# Altium schematic symbol library AltiumDesignerLibraries.SCHLIB: 396 symbols (part 2 of 3)
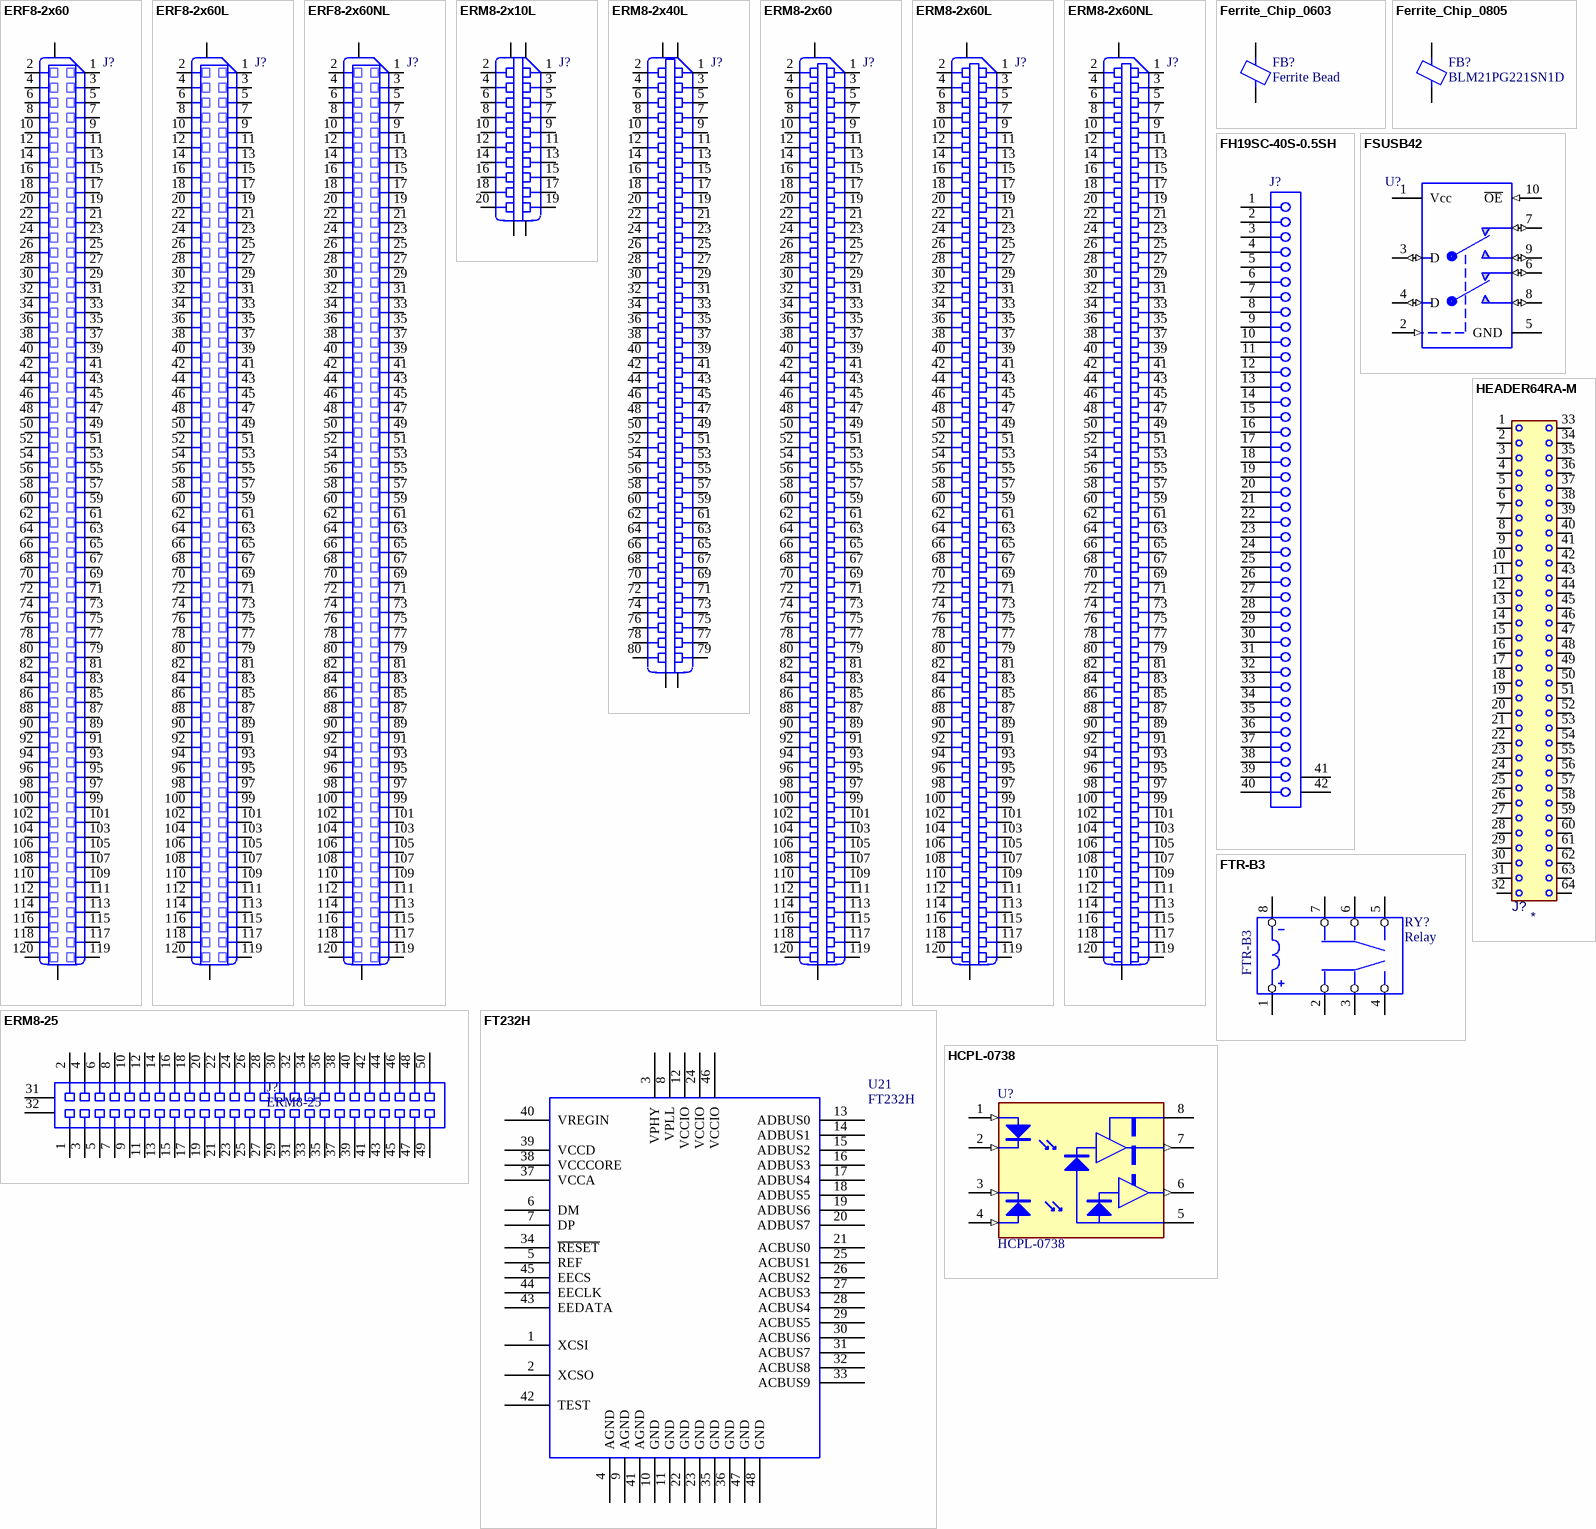
[diagram p18: symbols ERF8-2x60 to HEADER64RA-M]

## ERM8-2x40L
designator J?, comment 2x40 header  (value not drawn)
MicroBackplane high density male header (Latching); Manufacturer: Samtec; Manufacturer#: ERM8-2x40L
footprint ERM8-EM 2x40 (Edge Mount Male high density backplane connector)
pins: 1, 2, 3, 4, 5, 6, 7, 8, 9, 10, 11, 12, 13, 14, 15, 16, 17, 18, 19, 20, 21, 22, 23, 24, 25, 26, 27, 28, 29, 30, 31, 32, 33, 34, 35, 36, 37, 38, 39, 40, 41, 42, 43, 44, 45, 46, 47, 48, 49, 50, 51, 52, 53, 54, 55, 56, 57, 58, 59, 60, 61, 62, 63, 64, 65, 66, 67, 68, 69, 70, 71, 72, 73, 74, 75, 76, 77, 78, 79, 80, 81, 82, 83, 84

## ERM8-2x60
designator J?, comment Vertical 2x60 header  (value not drawn)
MicroBackplane high density male header; Manufacturer: Samtec; Manufacturer#: ERM8-2x60
footprint ERM8-2x60 (Mirco Backplane header)
pins: 1, 2, 3, 4, 5, 6, 7, 8, 9, 10, 11, 12, 13, 14, 15, 16, 17, 18, 19, 20, 21, 22, 23, 24, 25, 26, 27, 28, 29, 30, 31, 32, 33, 34, 35, 36, 37, 38, 39, 40, 41, 42, 43, 44, 45, 46, 47, 48, 49, 50, 51, 52, 53, 54, 55, 56, 57, 58, 59, 60, 61, 62, 63, 64, 65, 66, 67, 68, 69, 70, 71, 72, 73, 74, 75, 76, 77, 78, 79, 80, 81, 82, 83, 84, 85, 86, 87, 88, 89, 90, 91, 92, 93, 94, 95, 96, 97, 98, 99, 100, 101, 102, 103, 104, 105, 106, 107, 108, 109, 110, 111, 112, 113, 114, 115, 116, 117, 118, 119, 120, 120 121, 121

## ERM8-2x60L
designator J?, comment Vertical 2x60 header  (value not drawn)
MicroBackplane high density male header (Latching); Manufacturer: Samtec; Manufacturer#: ERM8-2x60L
footprint ERM8-EM 2x60 (Edge Mount Male high density backplane connector)
pins: 1, 2, 3, 4, 5, 6, 7, 8, 9, 10, 11, 12, 13, 14, 15, 16, 17, 18, 19, 20, 21, 22, 23, 24, 25, 26, 27, 28, 29, 30, 31, 32, 33, 34, 35, 36, 37, 38, 39, 40, 41, 42, 43, 44, 45, 46, 47, 48, 49, 50, 51, 52, 53, 54, 55, 56, 57, 58, 59, 60, 61, 62, 63, 64, 65, 66, 67, 68, 69, 70, 71, 72, 73, 74, 75, 76, 77, 78, 79, 80, 81, 82, 83, 84, 85, 86, 87, 88, 89, 90, 91, 92, 93, 94, 95, 96, 97, 98, 99, 100, 101, 102, 103, 104, 105, 106, 107, 108, 109, 110, 111, 112, 113, 114, 115, 116, 117, 118, 119, 120, 120 121, 121

## ERM8-2x60NL
designator J?, comment Vertical 2x60 header  (value not drawn)
MicroBackplane high density male header (Non-Latching); Manufacturer: Samtec; Manufacturer#: ERM8-2x60NL
footprint ERM8-2x60 (Mirco Backplane header)
pins: 1, 2, 3, 4, 5, 6, 7, 8, 9, 10, 11, 12, 13, 14, 15, 16, 17, 18, 19, 20, 21, 22, 23, 24, 25, 26, 27, 28, 29, 30, 31, 32, 33, 34, 35, 36, 37, 38, 39, 40, 41, 42, 43, 44, 45, 46, 47, 48, 49, 50, 51, 52, 53, 54, 55, 56, 57, 58, 59, 60, 61, 62, 63, 64, 65, 66, 67, 68, 69, 70, 71, 72, 73, 74, 75, 76, 77, 78, 79, 80, 81, 82, 83, 84, 85, 86, 87, 88, 89, 90, 91, 92, 93, 94, 95, 96, 97, 98, 99, 100, 101, 102, 103, 104, 105, 106, 107, 108, 109, 110, 111, 112, 113, 114, 115, 116, 117, 118, 119, 120, 120 121, 121

## ERM8-25
designator J?
ERM8-25x2 Right angle connector; Manufacturer: Samtec; Manufacturer#: ERM8-25
footprint 10226-55H3PC (MDR 26pos Rt Angle)
signal-integrity model D Subminiature
pins: 1, 2, 3, 4, 5, 6, 7, 8, 9, 10, 11, 12, 13, 14, 15, 16, 17, 18, 19, 20, 21, 22, 23, 24, 25, 26, 27, 28, 29, 30, 31 MH1, 31, 32 MH2, 32, 33, 34, 35, 36, 37, 38, 39, 40, 41, 42, 43, 44, 45, 46, 47, 48, 49, 50

## Ferrite_Chip_0603
designator FB?, comment Ferrite Bead
Ferrite Chip 150ohm @ 100MHz impedance 50mOhm DC
footprint CC0603
pins: 1, 2

## Ferrite_Chip_0805
designator FB?, comment BLM21PG221SN1D
Ferrite Chip 220ohm @ 100MHz impedance 50mOhm DC
footprint CC0805
pins: 1, 2

## FH19SC-40S-0.5SH
designator J?
FH19 Series, "Flip-Lock" SMT/ZIF Connector - 0.5mm Spaced Bottom  Contact
footprint FH19SC-40S-0.5SH(05) (Hirose 0.5mm FFC ZIF connectors Rt. angle surface mount)
pins: 1, 2, 3, 4, 5, 6, 7, 8, 9, 10, 11, 12, 13, 14, 15, 16, 17, 18, 19, 20, 21, 22, 23, 24, 25, 26, 27, 28, 29, 30, 31, 32, 33, 34, 35, 36, 37, 38, 39, 40, 41 MH1, 42 MH2

## FSUSB42
designator U?, comment USB Swicth  (value not drawn)
FSUSB42 Two port low power USB2.0 Switch
footprint TSSO3x5-G10
pins: 1 Vcc (power) "GND", 2 SEL (in), 3 D (io), 4 D (io), 5 GND (power), 6 HSD1- (io), 7 HSD1+ (io), 8 HSD2- (io), 9 HSD2+ (io), 10 ~{OE} (in)

## FT232H
designator U21
FT232H Single Channel Hi-Speed USB to Multipurpose UART/FIFO IC
footprint SQFP50P900X900-48M (Shrink QFP, 48-Leads, Body 7x7mm, Pitch 0.5mm, IPC Low Density)
pins: 1 XCSI, 2 XCSO, 3 VPHY, 4 AGND (power), 5 REF, 6 DM, 7 DP, 8 VPLL, 9 AGND (power), 10 GND (power), 11 GND (power), 12 VCCIO, 13 ADBUS0, 14 ADBUS1, 15 ADBUS2, 16 ADBUS3, 17 ADBUS4, 18 ADBUS5, 19 ADBUS6, 20 ADBUS7, 21 ACBUS0, 22 GND (power), 23 GND (power), 24 VCCIO, 25 ACBUS1, 26 ACBUS2, 27 ACBUS3, 28 ACBUS4, 29 ACBUS5, 30 ACBUS6, 31 ACBUS7, 32 ACBUS8, 33 ACBUS9, 34 ~{RESET}, 35 GND (power), 36 GND (power), 37 VCCA, 38 VCCCORE, 39 VCCD, 40 VREGIN, 41 AGND (power), 42 TEST, 43 EEDATA, 44 EECLK, 45 EECS, 46 VCCIO, 47 GND (power), 48 GND (power)

## FTR-B3
designator RY?, comment Relay
2342-05-000 COTO Reed Relay DTDT (2C) 5V Thru Hole
footprint FTR-B3G (DPDT Reed Relay)
footprint FTR-B3S (DPDT Reed Relay)
pins: 1 +, 2 NC1, 3 C1, 4 NO1, 5 NC2, 6 C2, 7 NC2, 8 -
1 alternate drawing of the same symbol

## HCPL-0738
designator U?
High Speed CMOS Optocoupler; Revision: 10/2/2004
footprint SO-G8/E3.9 (Small Outline; 8 Leads; Body Width 3.9 mm; Pitch 1.27 mm; PCB Creepage 4.4 mm)
pins: 1 ANODE 1 (in), 2 CATHODE 1 (in), 3 CATHODE 2 (in), 4 ANODE 2 (in), 5 GND (power), 6 Vo 1 (out), 7 Vo 2 (out), 8 VDD (power)

## HEADER64RA-M
designator J?  (value not drawn)
DIN Header, 64 Contacts, Dual Row, Right Angle, 3M 41612 Series 7064; Manufacturer: 3M; Value: *
footprint HEADER64RA
pins: 1, 2, 3, 4, 5, 6, 7, 8, 9, 10, 11, 12, 13, 14, 15, 16, 17, 18, 19, 20, 21, 22, 23, 24, 25, 26, 27, 28, 29, 30, 31, 32, 33, 34, 35, 36, 37, 38, 39, 40, 41, 42, 43, 44, 45, 46, 47, 48, 49, 50, 51, 52, 53, 54, 55, 56, 57, 58, 59, 60, 61, 62, 63, 64

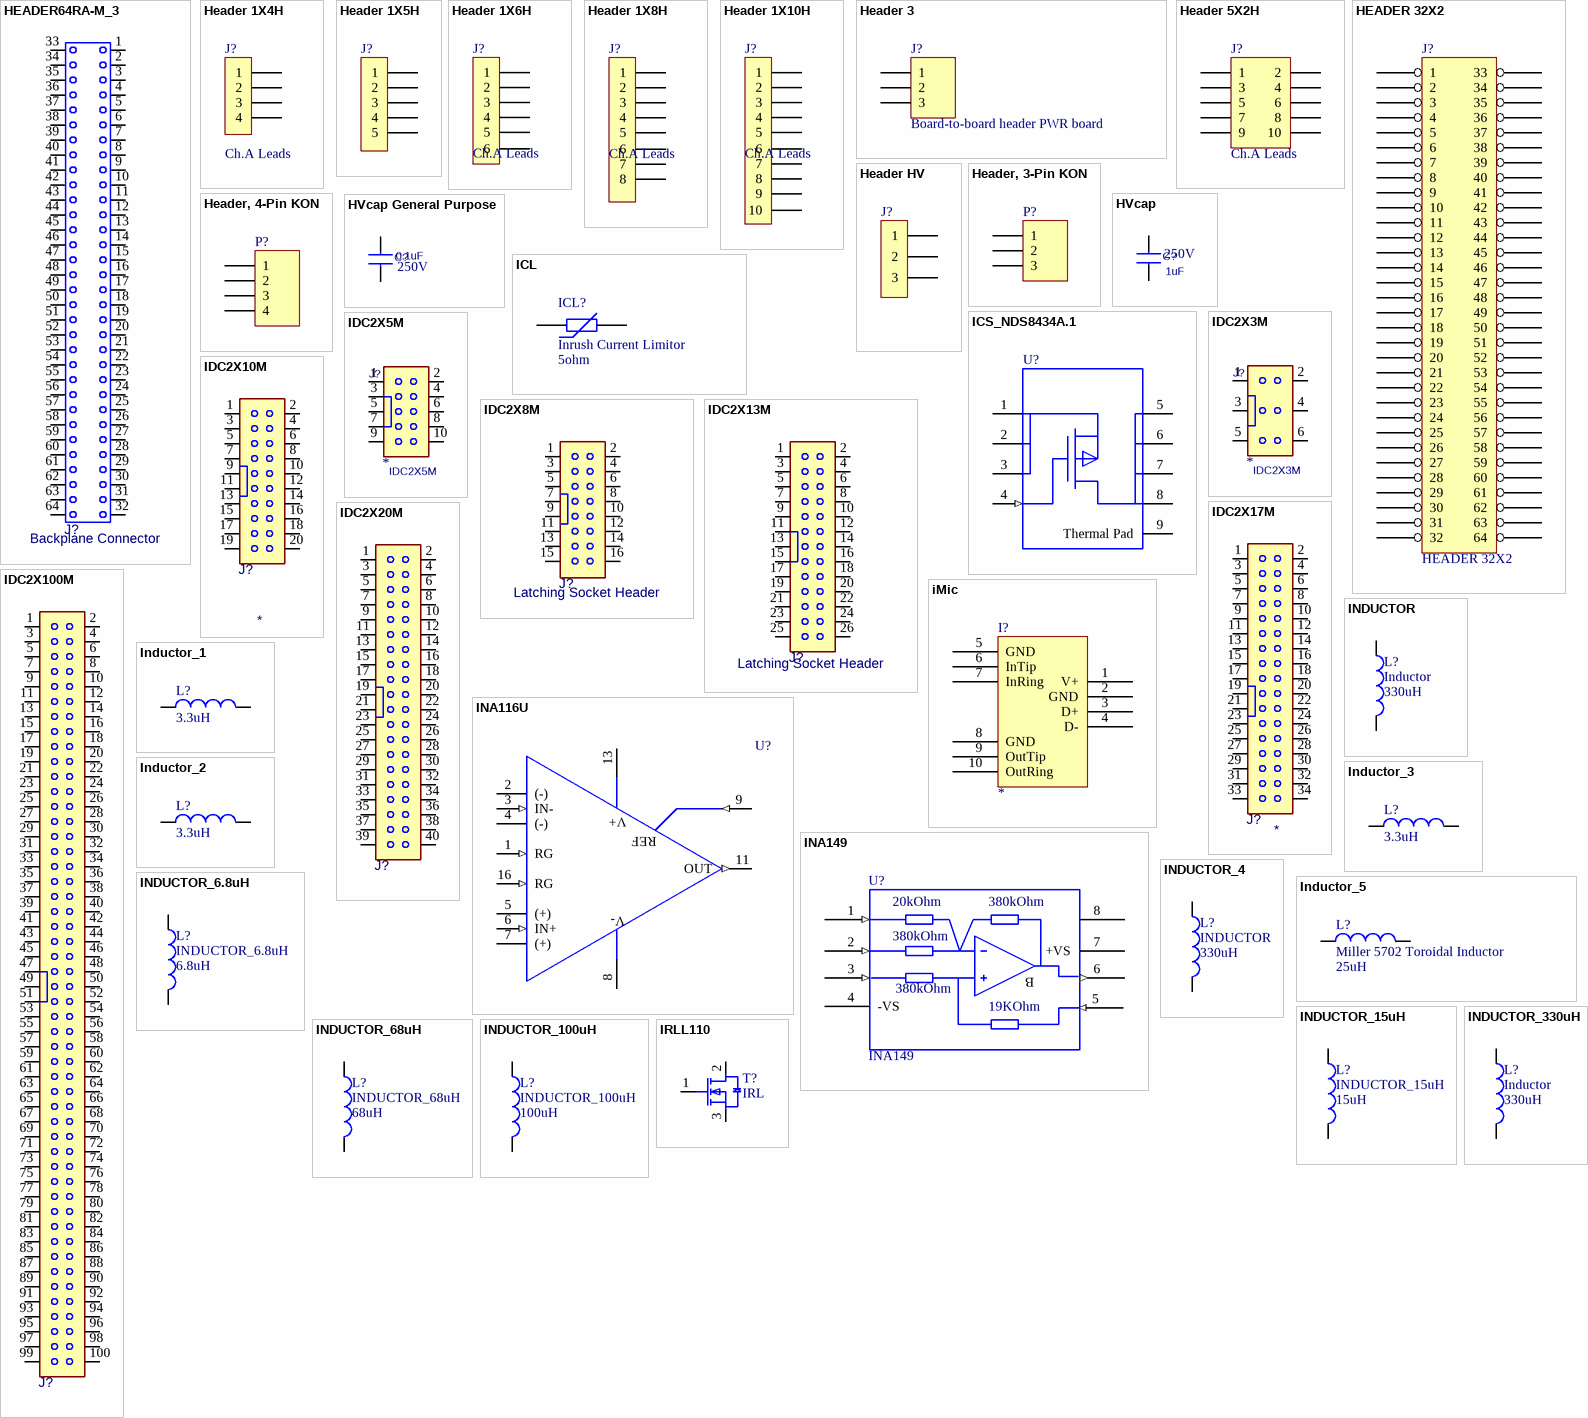
[diagram p8: symbols HEADER64RA-M_3 to IRLL110]

## HEADER64RA-M_3
designator J?, comment value Backplane Connector  (hidden comment: HEADER64RA-M)
Description: DIN HEADER
footprint HEADER64RA
pins: 1, 2, 3, 4, 5, 6, 7, 8, 9, 10, 11, 12, 13, 14, 15, 16, 17, 18, 19, 20, 21, 22, 23, 24, 25, 26, 27, 28, 29, 30, 31, 32, 33, 34, 35, 36, 37, 38, 39, 40, 41, 42, 43, 44, 45, 46, 47, 48, 49, 50, 51, 52, 53, 54, 55, 56, 57, 58, 59, 60, 61, 62, 63, 64

## Header 1X4H
designator J?, comment Ch.A Leads
Header 1X4H; Revision: 17-Jul-2002: Re-released for DXP Platform.
footprint HDR2X5H (Connector; Header; 5x2 Position; Right Angle)
signal-integrity model Connector
pins: 1, 2, 3, 4

## Header 1X5H
designator J?, comment Ch.A Leads  (value not drawn)
Header 1X5H; Value: 2x5 IDC; Revision: 17-Jul-2002: Re-released for DXP Platform.
footprint HDR1X5 (Connector; Header; 5 Position)
pins: 1, 2, 3, 4, 5

## Header 1X6H
designator J?, comment Ch.A Leads
Header 1X6H; Value: 2x5 IDC; Revision: 17-Jul-2002: Re-released for DXP Platform.
footprint HDR2X5H (Connector; Header; 5x2 Position; Right Angle)
signal-integrity model Connector
pins: 1, 2, 3, 4, 5, 6

## Header 1X8H
designator J?, comment Ch.A Leads
Header 1X8H; Value: 2x5 IDC; Revision: 17-Jul-2002: Re-released for DXP Platform.
footprint HDR2X5H (Connector; Header; 5x2 Position; Right Angle)
signal-integrity model Connector
pins: 1, 2, 3, 4, 5, 6, 7, 8

## Header 1X10H
designator J?, comment Ch.A Leads
Header 1X10H; Value: 2x5 IDC; Revision: 17-Jul-2002: Re-released for DXP Platform.
footprint HDR2X5H (Connector; Header; 5x2 Position; Right Angle)
signal-integrity model Connector
pins: 1, 2, 3, 4, 5, 6, 7, 8, 9, 10

## Header 3
designator J?, comment Board-to-board header PWR board
Samtec SMT 3-pos brd-to-brd header 200mil spacing; Revision: 17-Jul-2002: Re-released for DXP Platform.
footprint HPF
signal-integrity model Connector
pins: 1, 2, 3

## Header 5X2H
designator J?, comment Ch.A Leads
Header 5X2H; Value: 2x5 IDC; Revision: 17-Jul-2002: Re-released for DXP Platform.
footprint HDR2X5H (Connector; Header; 5x2 Position; Right Angle)
signal-integrity model Connector
pins: 1, 2, 3, 4, 5, 6, 7, 8, 9, 10

## HEADER 32X2
designator J?
footprint N2-25-01
pins: 1, 2, 3, 4, 5, 6, 7, 8, 9, 10, 11, 12, 13, 14, 15, 16, 17, 18, 19, 20, 21, 22, 23, 24, 25, 26, 27, 28, 29, 30, 31, 32, 33, 34, 35, 36, 37, 38, 39, 40, 41, 42, 43, 44, 45, 46, 47, 48, 49, 50, 51, 52, 53, 54, 55, 56, 57, 58, 59, 60, 61, 62, 63, 64

## Header HV
designator J?
High Voltage Header; Value: 2x5 IDC; Revision: 17-Jul-2002: Re-released for DXP Platform.
footprint HPM (HPM series from Samtec 200mil center spacing)
pins: 1, 2, 3

## Header, 3-Pin KON
designator P?, comment Header 3  (value not drawn)
Header, 3-Pin KON
signal-integrity model Connector
footprint 3XKON (0.156" pin spacing)
pins: 1, 2, 3

## Header, 4-Pin KON
designator P?  (value not drawn)
signal-integrity model Connector
footprint 4KON
pins: 1, 2, 3, 4

## HVcap
designator C?  value 1uF  Voltage: 250V
1uf HV cap 6039package 250V PEN
footprint CC6039
pins: 1, 2

## HVcap General Purpose
designator C?  value 0.1uF  Voltage: 250V
0.1uf HV cap 1206package 250V Cer
footprint CC1206
pins: 1, 2

## ICL
designator ICL?, comment Inrush Current Limitor  value 5ohm
B57236 Inrush current limitor (Thermistor); Revision: July-2002: Re-released for DXP Platform.
footprint TNT0412-J (ICL footprint)
pins: 1, 2

## ICS_NDS8434A.1
designator U?  (value not drawn)
P_CHANNEL MOSFET
footprint PowerPak 1212-8
pins: 1 S1, 2 S2, 3 S3, 4 G (in), 5 D1, 6 D2, 7 D3, 8 D4, 9 TH hidden, 9 Thermal Pad

## IDC2X3M
designator J?
Value: *
footprint IDC6M
pins: 1 P3, 2 P4, 3 P5, 4 P6, 5 P7, 6 P8

## IDC2X5M
designator J?
2x5 Pin Header for IDC Connector; Value: *
footprint IDC10M
pins: 1 P1, 2 P2, 3 P3, 4 P4, 5 P5, 6 P6, 7 P7, 8 P8, 9 P9, 10 P10

## IDC2X8M
designator J?  value Latching Socket Header  (hidden comment: IDC2X8M)
2x13 Pin Header for IDC Connectors
footprint IDC16M
pins: 1, 2, 3, 4, 5, 6, 7, 8, 9, 10, 11, 12, 13, 14, 15, 16

## IDC2X10M
designator J?  (value not drawn)
Description: 2x10 Pin Header for IDC Connectors; Value: *
footprint IDC20M (2x10 Header for IDC Connector)
pins: 1, 2, 3, 4, 5, 6, 7, 8, 9, 10, 11, 12, 13, 14, 15, 16, 17, 18, 19, 20

## IDC2X13M
designator J?  value Latching Socket Header  (hidden comment: IDC2X13M)
2x13 Pin Header for IDC Connectors
footprint IDC26M
pins: 1, 2, 3, 4, 5, 6, 7, 8, 9, 10, 11, 12, 13, 14, 15, 16, 17, 18, 19, 20, 21, 22, 23, 24, 25, 26

## IDC2X17M
designator J?  (value not drawn)
Description: 2x17 Pin Header for IDC Connector; Value: *
footprint IDC34M (2x17 Header for IDC Connector)
pins: 1, 2, 3, 4, 5, 6, 7, 8, 9, 10, 11, 12, 13, 14, 15, 16, 17, 18, 19, 20, 21, 22, 23, 24, 25, 26, 27, 28, 29, 30, 31, 32, 33, 34

## IDC2X20M
designator J?  (value not drawn)
2x20 Pin Header for IDC Connector; Value: *
footprint IDC40M
pins: 1, 2, 3, 4, 5, 6, 7, 8, 9, 10, 11, 12, 13, 14, 15, 16, 17, 18, 19, 20, 21, 22, 23, 24, 25, 26, 27, 28, 29, 30, 31, 32, 33, 34, 35, 36, 37, 38, 39, 40

## IDC2X100M
designator J?, comment IDC2X100  (value not drawn)
2x50 Pin Header for IDC Connector; Value: Header
footprint IDC100M (IDC100M 25mil pitch)
pins: 1, 2, 3, 4, 5, 6, 7, 8, 9, 10, 11, 12, 13, 14, 15, 16, 17, 18, 19, 20, 21, 22, 23, 24, 25, 26, 27, 28, 29, 30, 31, 32, 33, 34, 35, 36, 37, 38, 39, 40, 41, 42, 43, 44, 45, 46, 47, 48, 49, 50, 51, 52, 53, 54, 55, 56, 57, 58, 59, 60, 61, 62, 63, 64, 65, 66, 67, 68, 69, 70, 71, 72, 73, 74, 75, 76, 77, 78, 79, 80, 81, 82, 83, 84, 85, 86, 87, 88, 89, 90, 91, 92, 93, 94, 95, 96, 97, 98, 99, 100

## iMic
designator I?
iMic Add On PCB
footprint iMicFHC (iMic footprint for attaching to mother board)
pins: 1 V+, 2 GND, 3 D+, 4 D-, 5 GND, 6 InTip, 7 InRing, 8 GND, 9 OutTip, 10 OutRing

## INA116U
designator U?
Ultra-Low Input Bias Current Instrumentation Amplifier; Manufacturer: Texas Instruments; Revision: 17-Jul-2002: Re-released for DXP Platform.
footprint SOL-16
pins: 1 RG (in), 2 (-), 3 IN- (in), 4 (-), 5 (+), 6 IN+ (in), 7 (+), 8 V- (power), 9 REF (in), 10 NC hidden, 11 OUT (out), 12 NC hidden, 13 V+ (power), 14 NC hidden, 15 NC hidden, 16 RG (in)

## INA149
designator U?
High Common-mode voltage difference amplifier; Manufacturer: Texas Instruments
pins: 1 REF- (in), 2 IN- (in), 3 IN+ (in), 4 -VS (power), 5 VOUTB (in), 6 VOUTA (out), 7 +VS (power), 8 NC
text: 20kOhm; 380kOhm; B; 19KOhm

## INDUCTOR
designator L?, comment Inductor  value 330uH
330uH Inductor 10% 1210; Manufacturer#: ELJEA331KF
footprint ELJEA
footprint 1210
pins: 1, 2

## Inductor_1
designator L?, comment value 3.3uH  (hidden comment: Inductor)
Manufacturer: TDK Corporation; Manufacturer#: MLZ2012A3R3W
footprint 0402-A (Chip Inductor, Body 1.0x0.5mm, IPC High Density)
footprint INDC1608L (Chip Inductor, Body 1.6x0.8mm, IPC High Density)
footprint 2029 (Chip Inductor, Body 2.0x1.2mm, IPC High Density)
footprint 0603 (Chip Inductor, Body 0.6x0.3mm, IPC High Density)
footprint INDC3216 (Chip Inductor, Body 3.2x1.6mm, IPC High Density)
footprint INDC4532 (Chip Inductor, Body 4.5x3.2mm, IPC High Density)
simulation model INDUCTOR (Inductor)
signal-integrity model Inductor
pins: 1, 2

## Inductor_2
designator L?, comment value 3.3uH  (hidden comment: Inductor)
Manufacturer: TDK Corporation; Manufacturer#: MLZ2012A3R3W
footprint 0402-A (Chip Inductor, Body 1.0x0.5mm, IPC High Density)
footprint INDC1608L (Chip Inductor, Body 1.6x0.8mm, IPC High Density)
footprint 2029 (Chip Inductor, Body 2.0x1.2mm, IPC High Density)
footprint 0603 (Chip Inductor, Body 0.6x0.3mm, IPC High Density)
footprint INDC3216 (Chip Inductor, Body 3.2x1.6mm, IPC High Density)
footprint INDC4532 (Chip Inductor, Body 4.5x3.2mm, IPC High Density)
simulation model INDUCTOR (Inductor)
signal-integrity model Inductor
pins: 1, 2

## Inductor_3
designator L?, comment value 3.3uH  (hidden comment: Inductor)
Manufacturer: TDK Corporation; Manufacturer#: MLZ2012A3R3W
footprint 0402-A (Chip Inductor, Body 1.0x0.5mm, IPC High Density)
footprint INDC1608L (Chip Inductor, Body 1.6x0.8mm, IPC High Density)
footprint 2029 (Chip Inductor, Body 2.0x1.2mm, IPC High Density)
footprint 0603 (Chip Inductor, Body 0.6x0.3mm, IPC High Density)
footprint INDC3216 (Chip Inductor, Body 3.2x1.6mm, IPC High Density)
footprint INDC4532 (Chip Inductor, Body 4.5x3.2mm, IPC High Density)
simulation model INDUCTOR (Inductor)
signal-integrity model Inductor
pins: 1, 2

## INDUCTOR_4
designator L?, comment INDUCTOR  value 330uH
Generic Inductor; Manufacturer#: ELJEA331KF
pins: 1, 2

## Inductor_5
designator L?, comment Miller 5702 Toroidal Inductor  value 25uH
Digikey P/N M5702-ND; Revision: July-2002: Re-released for DXP Platform.
footprint C1005-0402 (Inductor; 2 Leads)
simulation model INDUCTOR (Inductor)
signal-integrity model Inductor
footprint CC4532-1812
pins: 1, 2

## INDUCTOR_6.8uH
designator L?  value 6.8uH
6.8uH Inductor 10% UniPack 1.7A Max; Manufacturer#: UP1B-6R8-R
footprint UP1B
pins: 1, 2

## INDUCTOR_15uH
designator L?  value 15uH
15uH Inductor 10% 1812 320mA Max; Manufacturer#: ELJ-PB150KF
pins: 1, 2

## INDUCTOR_68uH
designator L?  value 68uH
68uH Inductor 10% UniPack 580mA Max; Manufacturer#: UP1B-680-R
footprint UP1B (Uni-pac inductor packagages)
pins: 1, 2

## INDUCTOR_100uH
designator L?  value 100uH
100uH Inductor 10% UniPack 1A Max; Manufacturer#: UP2B-101-R
footprint UP2B (UniPack UP2B series footprint)
pins: 1, 2

## INDUCTOR_330uH
designator L?, comment Inductor  value 330uH
330uH Inductor 10% 1210; Manufacturer#: ELJEA331KF
footprint ELJEA
footprint 1210
pins: 1, 2

## IRLL110
designator T?, comment IRL
IRLL110 Nch. Trans. 100V 1.5A SOT-223
footprint SOT-223 (Three lead, tab connected to middle pin)
pins: 1 G, 2 S, 3 D

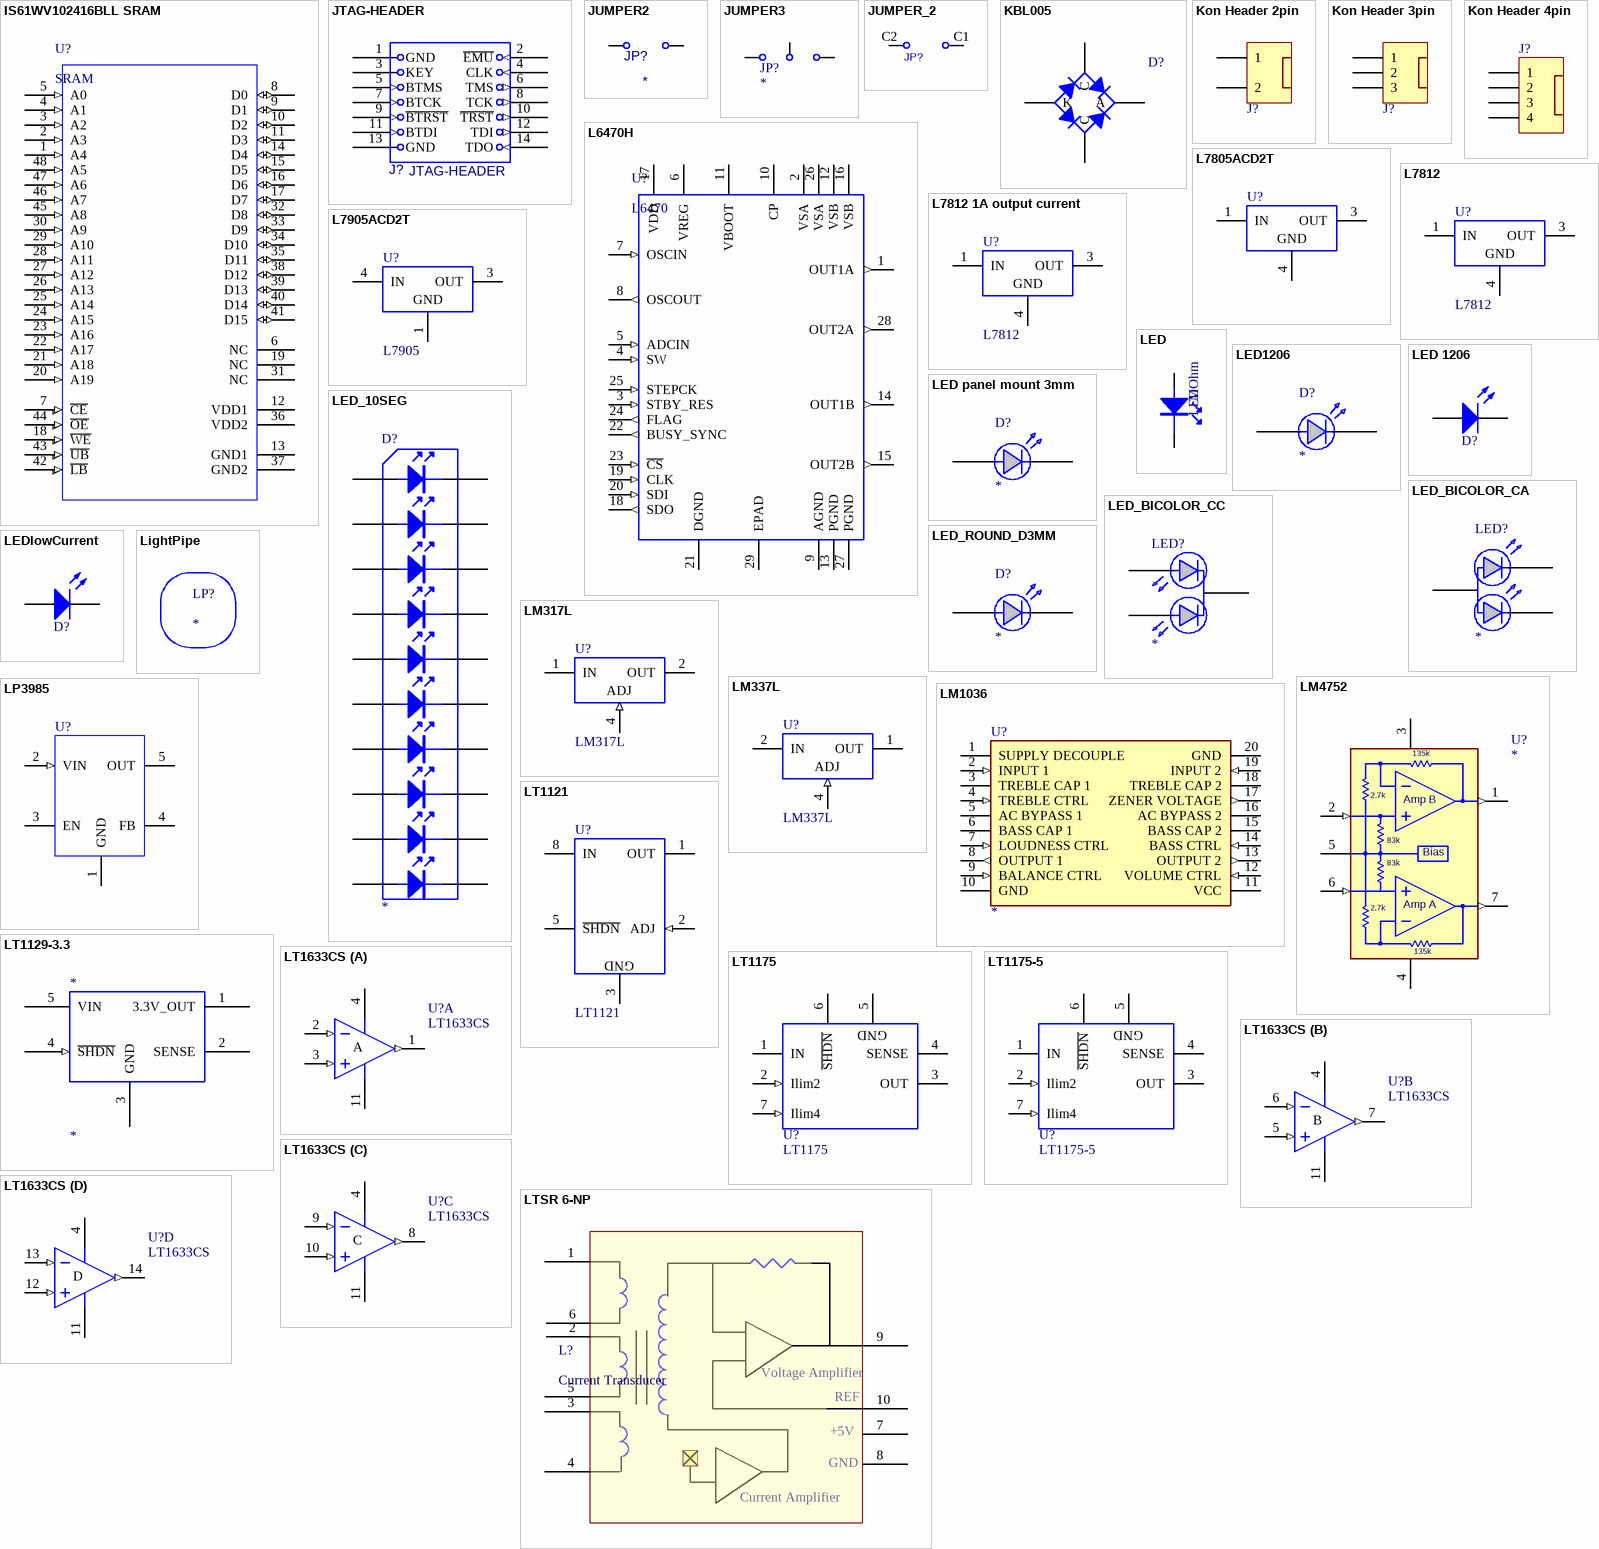
[diagram p9: symbols IS61WV102416BLL SRAM to LTSR 6-NP]

## IS61WV102416BLL SRAM
designator U?, comment SRAM
SRAM 16MBIT 10NS 48TSOP
footprint TSSOP50P2000-48AN (TSSOP, 48-Leads, Body 12x18.4mm, Pitch 0.5mm, IPC Medium Density)
pins: 1 A4 (in) "Address Input", 2 A3 (in) "Address Input", 3 A2 (in) "Address Input", 4 A1 (in), 5 A0 (in), 6 NC, 7 ~{CE} (in) "Chip Enable Input", 8 D0 (io) "Data Input/Output", 9 D1 (io) "Data Input/Output", 10 D2 (io) "Data Input/Output", 11 D3 (io) "Data Input/Output", 12 VDD1 (power) "VDD 3.3V", 13 GND1 (power) "VDD 3.3V", 14 D4 (io) "Data Input/Output", 15 D5 (io) "Data Input/Output", 16 D6 (io) "Data Input/Output", 17 D7 (io) "Data Input/Output", 18 ~{WE} (in) "Write Enable Input", 19 NC, 20 A19 (in) "Address Input", 21 A18 (in) "Address Input", 22 A17 (in) "Address Input", 23 A16 (in) "Address Input", 24 A15 (in) "Address Input", 25 A14 (in) "Address Input", 26 A13 (in) "Address Input", 27 A12 (in) "Address Input", 28 A11 (in) "Address Input", 29 A10 (in) "Address Input", 30 A9 (in) "Address Input", 31 NC, 32 D8 (io) "Data Input/Output", 33 D9 (io) "Data Input/Output", 34 D10 (io) "Data Input/Output", 35 D11 (io) "Data Input/Output", 36 VDD2 (power) "GND", 37 GND2 (power) "GND", 38 D12 (io) "Data Input/Output", 39 D13 (io) "Data Input/Output", 40 D14 (io) "Data Input/Output", 41 D15 (io) "Data Input/Output", 42 ~{LB} (in) "Lower-byte Control (I/O0-I/O7)", 43 ~{UB} (in) "Upper-byte Control (I/O8-I/O15)", 44 ~{OE} (in) "Output Enable Input", 45 A8 (in) "Address Input", 46 A7 (in) "Address Input", 47 A6 (in) "Address Input", 48 A5 (in) "Address Input"

## JTAG-HEADER
designator J?
Value: JTAG
footprint JTAG-HEADER
pins: 1 GND (power), 2 ~{EMU} (in), 3 KEY, 4 CLK (in), 5 BTMS (in), 6 TMS (out), 7 BTCK (in), 8 TCK (out), 9 ~{BTRST} (in), 10 ~{TRST} (out), 11 BTDI (in), 12 TDI (out), 13 GND (power), 14 TDO (in)

## JUMPER2
designator JP?
JUMPER2
footprint JMP2; pin to pad C1>1 C2>2
pins: 1 C1, 2 C2

## JUMPER3
designator JP?
JUMPER3
footprint JMP3
pins: 1 C1, 2 C2, 3 C3

## JUMPER_2
designator JP?  (value not drawn)
Description: Jumper; Value: AOUT2_DC
footprint JMP2; pin to pad C1>1 C2>2
pins: C1, C2

## KBL005
designator D?
Full Wave Diode Bridge; Voltage: 50V; Revision: July-2002: Re-released for DXP Platform.
simulation model BRIDGE (Spice Subcircuit)
footprint SIP-P4/X1.9
pins: 1 A, 2 C, 3 C, 4 K

## Kon Header 2pin
designator J?, comment Power Connection  (value not drawn)
Kon 0.156" spacing vertical header  3-Pin; Revision: 17-Jul-2002: Re-released for DXP Platform.
footprint 2XKON (Pins spaced for AC mains connection)
pins: 1, 2

## Kon Header 3pin
designator J?, comment Power Connection  (value not drawn)
Kon 0.156" spacing vertical header  3-Pin; Revision: 17-Jul-2002: Re-released for DXP Platform.
footprint 3XKON (0.156" pin spacing)
pins: 1, 2, 3

## Kon Header 4pin
designator J?, comment Power Connection  (value not drawn)
Kon 0.156" spacing vertical Header, 4-Pin; Revision: 17-Jul-2002: Re-released for DXP Platform.
signal-integrity model Connector
footprint 640445-4
pins: 1, 2, 3, 4

## L6470H
designator U?, comment L6470
L6470 Vmode Stepper Motor Driver; Manufacturer: ST Microelectronics
footprint TSOP65P640-28AM (TSOP, 28-Leads, Body 9.7x4.4mm, Pitch 0.65mm, IPC Low Density)
pins: 1  OUT1A (out), 2 VSA (power), 3 STBY_RES (in), 4 SW (in), 5 ADCIN (in), 6 VREG (power), 7 OSCIN (in), 8 OSCOUT (out), 9 AGND (power), 10 CP (power), 11 VBOOT (power), 12 VSB (power), 13 PGND (power) "DGND", 14 OUT1B (out), 15 OUT2B (out), 16 VSB (power), 17 VDD (power), 18 SDO (out), 19 CLK (in), 20 SDI (in), 21 DGND (power), 22 BUSY_SYNC (out), 23 ~{CS} (in), 24 FLAG (out), 25 STEPCK (in), 26 VSA (power), 27 PGND (power) "DGND", 28 OUT2A (out), 29 EPAD (power) "Heat Slug"

## L7805ACD2T
designator U?
Precision 1A Regulator; Manufacturer: ST Microelectronics; Revision: 17-Jul-2002: Re-released for DXP Platform.
footprint TO-263 (D2-PAK/TO-263-AB; 3 Leads (1 Cropped); Body 15.9 (inc. leads) x 10.4 mm (LxW max))
pins: 1 IN (power), 3 OUT (power), 4 GND (power)

## L7812
designator U?
Precision 1A Regulator; Manufacturer: ST Microelectronics; Revision: 17-Jul-2002: Re-released for DXP Platform.
footprint TO-263 (D2-PAK/TO-263-AB; 3 Leads (1 Cropped); Body 15.9 (inc. leads) x 10.4 mm (LxW max))
pins: 1 IN (power), 3 OUT (power), 4 GND (power)

## L7812 1A output current
designator U?, comment L7812
Precision 12V@ 1A Regulator; Revision: 17-Jul-2002: Re-released for DXP Platform.
footprint TO-263 (D2-PAK/TO-263-AB; 3 Leads (1 Cropped); Body 15.9 (inc. leads) x 10.4 mm (LxW max))
pins: 1 IN (power), 3 OUT (power), 4 GND (power)

## L7905ACD2T
designator U?, comment L7905
2% Negative Voltage Regulator; Manufacturer: ST Microelectronics; Revision: 17-Jul-2002: Re-released for DXP Platform.
footprint TO-263 (D2-PAK/TO-263-AB; 3 Leads (1 Cropped); Body 15.9 (inc. leads) x 10.4 mm (LxW max))
pins: 1 GND (power), 3 OUT (power), 4 IN (power)

## LED
designator MOhm
General Purpose LED
pins: A, K

## LED1206
designator D?
Red LED1206
footprint LED1206
pins: 1 ANODE, 2 CATHODE

## LED 1206
designator D?  (value not drawn)
footprint LED1206
pins: 1 A, 2 K

## LED panel mount 3mm
designator D?
LED panel mount 3mm
footprint LED (LED; 2 Leads)
pins: A, K

## LED_10SEG
designator D?
10 Segment Bar Graph LED, Red
footprint DIP20LED
pins: 1 A1, 2 A2, 3 A3, 4 A4, 5 A5, 6 A6, 7 A7, 8 A8, 9 A9, 10 A10, 11 K10, 12 K9, 13 K8, 14 K7, 15 K6, 16 K5, 17 K4, 18 K3, 19 K2, 20 K1

## LED_BICOLOR_CA
designator LED?
Bi-color LED, common anode
footprint LED_BICOLOR_CA (Bi-color LED, common anode)
pins: A, KG, KR

## LED_BICOLOR_CC
designator LED?
Bi-color LED, common cathode
footprint LED_BICOLOR_CC (Bi-color LED, common cathode); pin to pad A>1 KG>3 KR>2
footprint RightAngleLED (3mm Right Angle Bi-Colored LED)
pins: 1, 2, 3

## LED_ROUND_D3MM
designator D?
Round LED 3mm
footprint LED075 (3mm LED with 75mil pin spacing)
footprint RT.ANGLE_LED (Right Angle LED 200mil height)
pins: A, K

## LEDlowCurrent
designator D?, comment LED low current  (value not drawn)
Low Current RED, GREEN, YELLOW, AMBER GaAs LED
footprint LED (0603)
pins: 1 A, 2 K

## LightPipe
designator LP?
VCC Lighte Pipe
footprint Light Pipe Mount (VCC Light Pipe hardware)

## LM317L
designator U?
3-Terminal Adjustable Regulator; Manufacturer: Texas Instruments
simulation model LM317 (SUBCKT)
footprint SO-G8
pins: 1 IN (power), 2 OUT (power), 3 OUT (power) hidden to OUT, 4 ADJ (in), 5 NC hidden, 6 OUT (power) hidden to OUT, 7 OUT (power) hidden to OUT, 8 NC (power) hidden

## LM337L
designator U?
3-Terminal Adjustable Negative Regulator; Manufacturer: Texas Instruments
footprint SO-G8
pins: 1 OUT (power), 2 IN (power), 3 IN (power) hidden to IN, 4 ADJ (in), 5 N.C. hidden, 6 IN (power) hidden to IN, 7 IN (power) hidden to IN, 8 N.C. hidden

## LM1036
designator U?
Dual DC operated tone/volume/balance circuit; Manufacturer: Texas Instruments
footprint SO-G20
pins: 1 SUPPLY DECOUPLE "INTERNAL SUPPLY DECOUPLE", 2 INPUT 1 (in), 3 TREBLE CAP 1 "TREBLE CAPACITOR 1", 4 TREBLE CTRL (in) "TREBLE CONTROL INPUT", 5 AC BYPASS 1, 6 BASS CAP 1 "BASS CAPACITOR 1", 7 LOUDNESS CTRL (in) "LOUDNESS COMPENSATION CONTROL INPUT", 8 OUTPUT 1 (out), 9 BALANCE CTRL (in) "BALANCE CONTROL INPUT", 10 GND (power), 11 VCC (power), 12 VOLUME CTRL (in) "VOLUME CONTROL INPUT", 13 OUTPUT 2 (out), 14 BASS CTRL (in) "BASS CONTROL INPUT", 15 BASS CAP 2 "BASS CAPACITOR 2", 16 AC BYPASS 2, 17 ZENER VOLTAGE (out), 18 TREBLE CAP 2 "TREBLE CAPACITOR 2", 19 INPUT 2 (in), 20 GND (power)

## LM4752
designator U?
Stereo 11W Audio Power Amplifier; Manufacturer: Texas Instruments
footprint DFM-T7/E10.6V
footprint DFM-T7/E10.6V - with heat sink (TA07B   with digikey PN HS188-ND heat sink)
pins: 1 OUT B (out) "Output B", 2 IN B (in) "Input B", 3 VCC (power) "Positive supply voltage", 4 GND (power) "Negative supply voltage", 5 BIAS "Bias decoupling capacitor", 6 IN A (in) "Input A", 7 OUT A (out) "Output A"
text: 135k; 2.7k; Amp B; 83k; Bias; Amp A

## LP3985
designator U?
Low Noise Postive Voltage Regulaor; Manufacturer: Texas Instruments
footprint SO-G5/P.95
pins: 1 GND (power), 2 VIN (in), 3 EN, 4 FB, 5 OUT

## LT1121
designator U?
Micro Power LDO Pos. Adj.  3V-30V; Manufacturer: Linear Technologies
footprint SO-G8
pins: 1 OUT (power), 2 ADJ (in), 3 GND (power), 4 NC (power) hidden, 5 ~{SHDN}, 6 NC (power) hidden to OUT, 7 NC (power) hidden to OUT, 8 IN (power)

## LT1129-3.3
designator *
IC REG LDO 3.3V 0.7A SOT223; Manufacturer#: LT1129CST-3.3#PBF; Manufacturer: Linear Technologies; Description: IC, LT1129IQ-3.3, Voltage Regulator, +3.3V, 700mA, DD 5-Lead
pins: 1 3.3V_OUT (power), 2 SENSE, 3 GND (power), 4 ~{SHDN} (in), 5 VIN (power)

## LT1175
designator U?
Micro Power LDO Adjustable; Manufacturer: Linear Technologies
footprint SO-G8
pins: 1 IN (power), 2 Ilim2 (in), 3 OUT (power), 4 SENSE (power), 5 GND (power), 6 ~{SHDN}, 7 Ilim4 (in), 8 IN (power) hidden

## LT1175-5
designator U?
Micro Power LDO Fixed -5V; Manufacturer: Linear Technologies
footprint SO-G8
pins: 1 IN (power), 2 Ilim2 (in), 3 OUT (power), 4 SENSE (power), 5 GND (power), 6 ~{SHDN}, 7 Ilim4 (in), 8 IN (power) hidden

## LT1633CS
designator U?
45MHz, 45V/µs, Quad Rail-to-Rail Input and Output Precision Operational Amplifier; Manufacturer: Linear Technologies
footprint SO-G14
simulation model LT1633 (SUBCKT)
pins on every part: 4 V+ (power), 11 V- (power)
part A pins: 1 OUT (out), 2 IN- (in), 3 IN+ (in)
part B pins: 5 IN+ (in), 6 IN- (in), 7 OUT (out)
part C pins: 8 OUT (out), 9 IN- (in), 10 IN+ (in)
part D pins: 12 IN+ (in), 13 IN- (in), 14 OUT (out)
part A text: A
part B text: B
part C text: C
part D text: D

## LTSR 6-NP
designator L?, comment Current Transducer
LTSR 6-NP Current Transducer; Manufacturer: LEM USA
pins: 1, 1, 1, 1, 1, 2, 2, 2, 2, 2, 3, 4, 5, 6, 7, 8, 9, 10
text: Voltage Amplifier; REF; +5V; GND; Current Amplifier

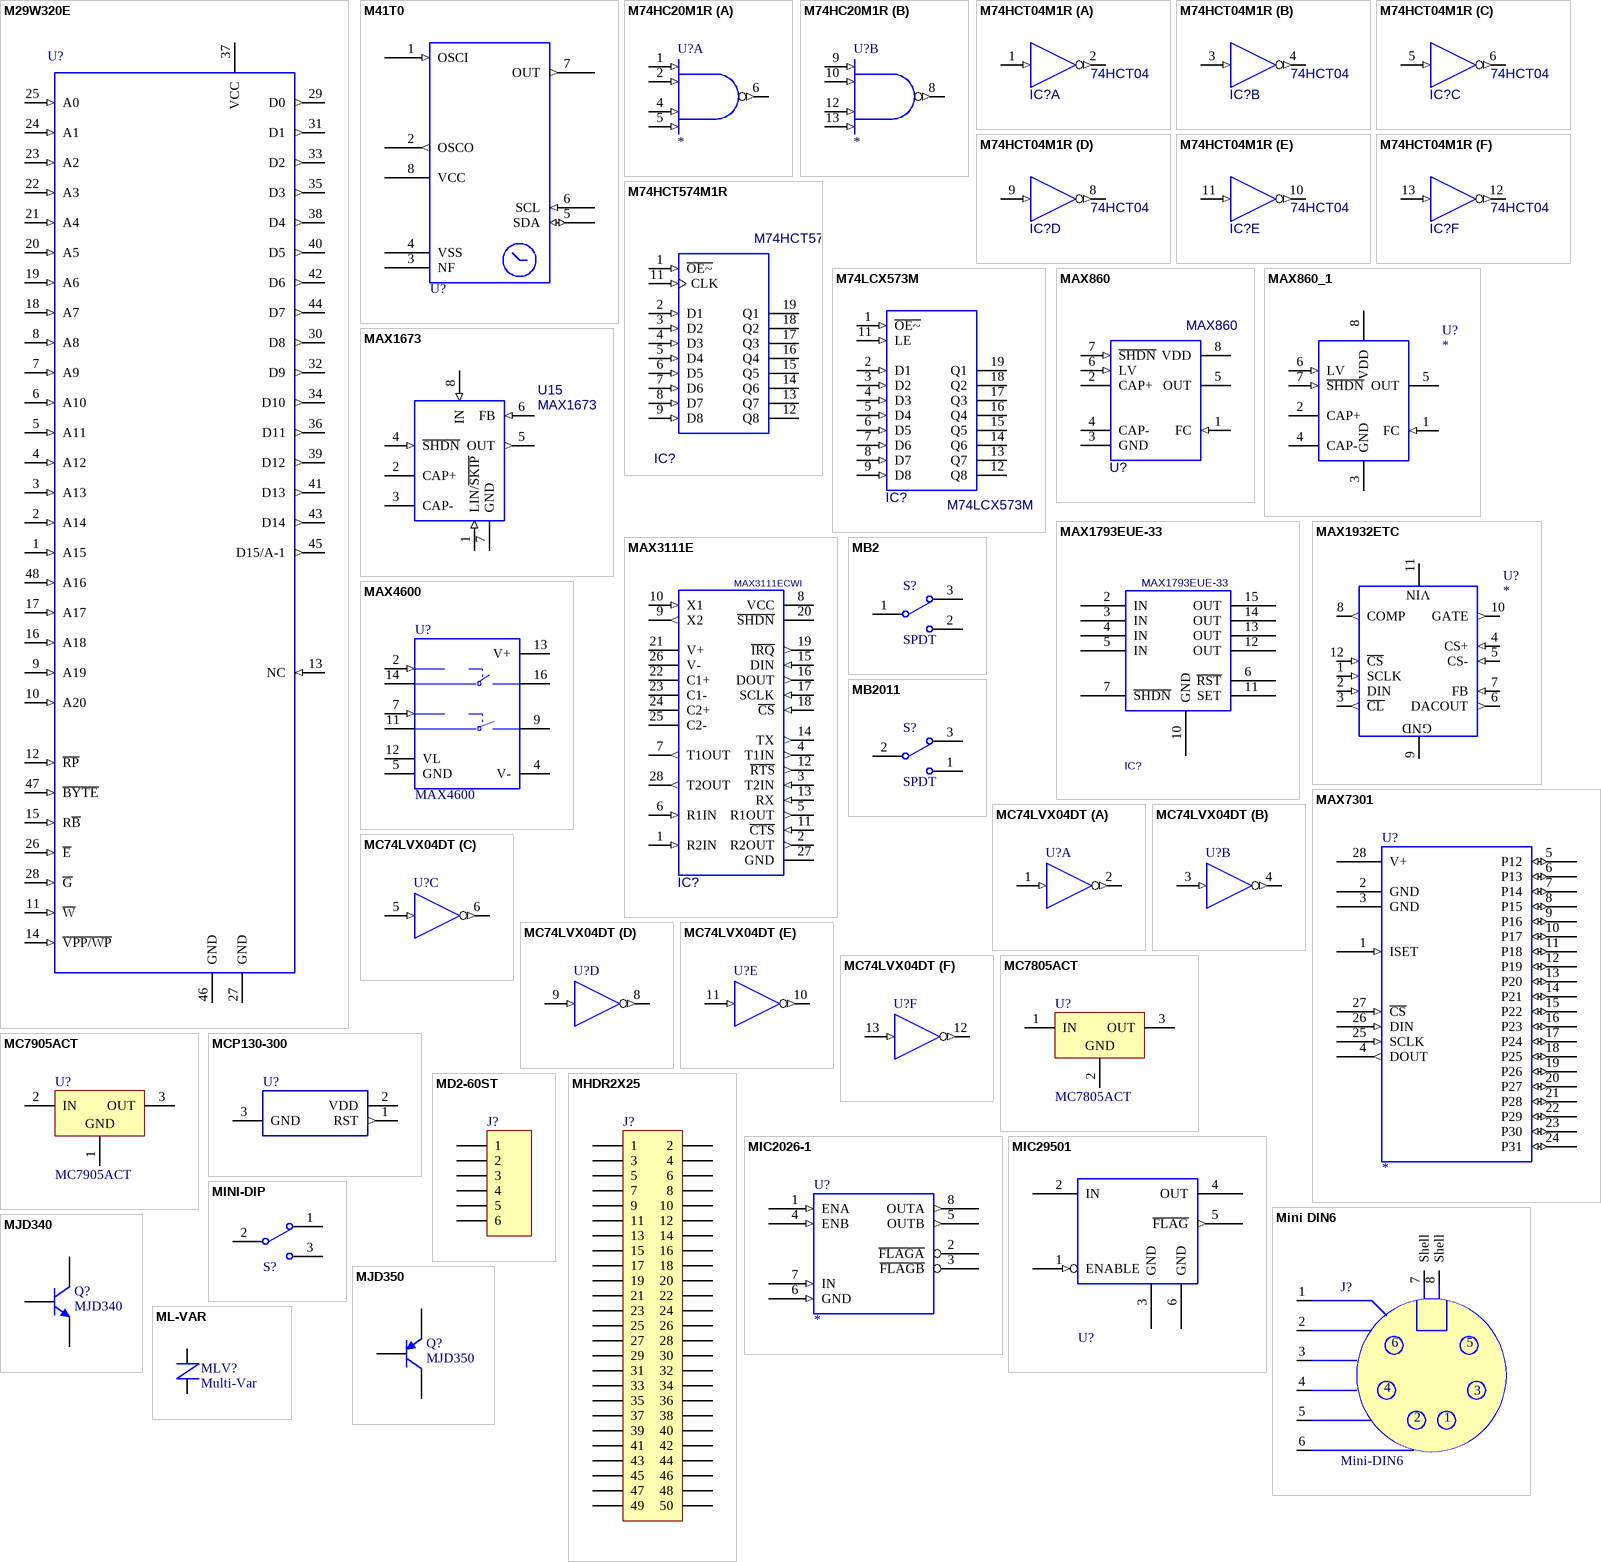
[diagram p10: symbols M29W320E to ML-VAR]

## M29W320E
designator U?, comment Flash Memory  (value not drawn)
M29W320E 4MB flash memory; Manufacturer: Micron Technologies
footprint TSSOP50P2000-48AN (TSSOP, 48-Leads, Body 12x18.4mm, Pitch 0.5mm, IPC Medium Density)
pins: 1 A15 (in), 2 A14 (in), 3 A13 (in), 4 A12 (in), 5 A11 (in), 6 A10 (in), 7 A9 (in), 8 A8 (in), 9 A19 (in), 10 A20 (in), 11 ~{W} (in), 12 ~{RP} (in), 13 NC (in), 14 ~{VPP/WP} (in), 15 R~{B} (in), 16 A18 (in), 17 A17 (in), 18 A7 (in), 19 A6 (in), 20 A5 (in), 21 A4 (in), 22 A3 (in), 23 A2 (in), 24 A1 (in), 25 A0 (in), 26 ~{E} (in), 27 GND (power), 28 ~{G} (in), 29 D0 (out), 30 D8 (out), 31 D1 (out), 32 D9 (out), 33 D2 (out), 34 D10 (out), 35 D3 (out), 36 D11 (out), 37 VCC (power), 38 D4 (out), 39 D12 (out), 40 D5 (out), 41 D13 (out), 42 D6 (out), 43 D14 (out), 44 D7 (out), 45 D15/A-1 (out), 46 GND (power), 47 ~{BYTE} (in), 48 A16 (in)

## M41T0
designator U?, comment RTC  (value not drawn)
M41T0 ST microElectronics Real Time Clock; Manufacturer: ST Microelectronics
footprint SO-G8 (SOIC 8 pin 0.5mm pitch)
pins: 1 OSCI (in), 2 OSCO (out), 3 NF, 4 VSS (power), 5 SDA (io), 6 SCL (in), 7 OUT (out), 8 VCC (power)

## M74HC20M1R
designator U?
M74HC20M1R
footprint SO-G14/G3
pins on every part: 7 GND (power) hidden, 14 VCC (power) hidden
part A pins: 1 A (in), 2 B (in), 4 C (in), 5 D (in), 6 Y (out)
part B pins: 8 Y (out), 9 A (in), 10 B (in), 12 C (in), 13 D (in)

## M74HCT04M1R
designator IC?  value 74HCT04  (hidden comment: M74HCT04M1R)
Manufacturer: ST Microelectronics; Description: Hex Inverter
footprint SO-G14/G3
pins on every part: 7 GND (power) hidden to GND, 14 VCC (power) hidden to +3.3V
part A pins: 1 A (in), 2 Y (out)
part B pins: 3 A (in), 4 Y (out)
part C pins: 5 A (in), 6 Y (out)
part D pins: 8 Y (out), 9 A (in)
part E pins: 10 Y (out), 11 A (in)
part F pins: 12 Y (out), 13 A (in)

## M74HCT574M1R
designator IC?
Description: Octal D-Type Flip-Flop with 3-State Output Non Inverting; Value: M74HCT574M1R
footprint SO-G20
pins: 1 ~{OE~} (in), 2 D1 (in), 3 D2 (in), 4 D3 (in), 5 D4 (in), 6 D5 (in), 7 D6 (in), 8 D7 (in), 9 D8 (in), 10 GND (power) hidden to GND, 11 CLK (in), 12 Q8 (hiz), 13 Q7 (hiz), 14 Q6 (hiz), 15 Q5 (hiz), 16 Q4 (hiz), 17 Q3 (hiz), 18 Q2 (hiz), 19 Q1 (hiz), 20 VCC (power) hidden to +5V

## M74LCX573M
designator IC?
Octal D-Type Latch with 3-State Output Non Inverting; Value: M74LCX573M
footprint SO-G20
pins: 1 ~{OE~} (in), 2 D1 (in), 3 D2 (in), 4 D3 (in), 5 D4 (in), 6 D5 (in), 7 D6 (in), 8 D7 (in), 9 D8 (in), 10 GND (power) hidden to GND, 11 LE (in), 12 Q8 (hiz), 13 Q7 (hiz), 14 Q6 (hiz), 15 Q5 (hiz), 16 Q4 (hiz), 17 Q3 (hiz), 18 Q2 (hiz), 19 Q1 (hiz), 20 VCC (power) hidden to +3.3V

## MAX860
designator U?
MAX860 voltage inverter 50mA; Manufacturer: Maxim; Description: 50mA, Frequency-Selectable, Switched-Capacitor Voltage Converter; Value: MAX860/861ESA
footprint SO-G8
pins: 1 FC (in), 2 CAP+, 3 GND (power), 4 CAP-, 5 OUT (power), 6 LV (in), 7 ~{SHDN} (in), 8 VDD (power)

## MAX860_1
designator U?
100mA Charge Pump Voltage Converter with Shutdown; Manufacturer: Maxim
footprint SO-G8
pins: 1 FC (in), 2 CAP+, 3 GND (power), 4 CAP-, 5 OUT (power), 6 LV (in), 7 ~{SHDN} (in), 8 VDD (power)

## MAX1673
designator U15
Regulated, 125mA-Output, / Charge-Pump DC-DC Inverter; Manufacturer: Maxim; Value: MAX1673
footprint SO-G8
pins: 1 LIN/~{SKIP} (in), 2 CAP+, 3 CAP-, 4 ~{SHDN} (in), 5 OUT (out), 6 FB (in), 7 GND (power), 8 IN (in)

## MAX1793EUE-33
designator IC?
Low-Dropout, Low IQ, 1A Linear Regulator; Manufacturer: Maxim
footprint TSSO5X6-G16
pins: 1 NC hidden, 2 IN, 3 IN, 4 IN, 5 IN, 6 ~{RST}, 7 ~{SHDN}, 8 NC hidden, 9 NC hidden, 10 GND, 11 SET, 12 OUT, 13 OUT, 14 OUT, 15 OUT, 16 NC hidden

## MAX1932ETC
designator U?
MAX1932ETC 90V Converter; Manufacturer: Maxim
footprint QFN4X4-G12
pins: 1 SCLK (in), 2 DIN (in), 3 ~{CL} (out), 4 CS+ (in), 5 CS- (in), 6 DACOUT (out), 7 FB (in), 8 COMP (out), 9 GND (power), 10 GATE (out), 11 VIN (power), 12 ~{CS} (in)

## MAX3111E
designator IC?  value MAX3111ECWI  (hidden comment: MAX3111E)
Manufacturer: Maxim; Description: +5V Powered, Multi-Channel RS-232 Driver/Receiver
footprint SO-G28
pins: 1 R2IN (in), 2 R2OUT (out), 3 T2IN (in), 4 T1IN (out), 5 R1OUT (out), 6 R1IN (in), 7 T1OUT (out), 8 VCC (power), 9 X2 (out), 10 X1 (in), 11 ~{CTS} (in), 12 ~{RTS} (out), 13 RX (in), 14 TX (out), 15 DIN (in), 16 DOUT (out), 17 SCLK (in), 18 ~{CS} (in), 19 ~{IRQ} (out), 20 ~{SHDN}, 21 V+ (power), 22 C1+, 23 C1-, 24 C2+, 25 C2-, 26 V- (power), 27 GND (power), 28 T2OUT (out)

## MAX4600
designator U?
1.25Ohm, Dual, SPST, CMOS Analog Switches; Manufacturer: Maxim; Revision: 17-Jul-2002: Re-released for DXP Platform.
footprint SSO-G16/X.45
footprint SSO-G16/X.45
pins: 1 N.C. hidden, 2 IN1 (in), 3 N.C. hidden, 4 V- (power), 5 GND (power), 6 N.C. hidden, 7 IN2 (in), 8 N.C. hidden, 9 NC1, 10 N.C. hidden, 11 COM2, 12 VL (power), 13 V+ (power), 14 COM1, 15 N.C. hidden, 16 NO1

## MAX7301
designator U?
SPI 20 port I/O expander; Manufacturer: Maxim
pins: 1 ISET (in), 2 GND (power), 3 GND (power), 4 DOUT (out), 5 P12 (io), 6 P13 (io), 7 P14 (io), 8 P15 (io), 9 P16 (io), 10 P17 (io), 11 P18 (io), 12 P19 (io), 13 P20 (io), 14 P21 (io), 15 P22 (io), 16 P23 (io), 17 P24 (io), 18 P25 (io), 19 P26 (io), 20 P27 (io), 21 P28 (io), 22 P29 (io), 23 P30 (io), 24 P31 (io), 25 SCLK (in), 26 DIN (in), 27 ~{CS} (in), 28 V+ (power)

## MB2
designator S?, comment SPDT
MB2 vertical pcb mount pushbutton switch momentary
footprint MB2 (Single-pole PCB mount switch)
pins: 1, 2, 3

## MB2011
designator S?, comment SPDT
MB2011 vertical pcb mount pushbutton switch momentary
footprint MB2011 (Single-pole PCB mount switch)
pins: 1, 2, 3, 4 hidden to GND, 5 hidden to GND, 6 hidden to GND, 7 hidden to GND

## MC74LVX04DT
designator U?
Hex Inverter with 5V-Tolerant Inputs
footprint 948G-01 (Shrink Small Outline; 14 Leads; Body Width 4.4 mm; Pitch 0.65 mm)
pins on every part: 7 GND (power) hidden to GND, 14 VDD (power) hidden to VDD
part A pins: 1 IN (in), 2 ~{OUT} (out)
part B pins: 3 IN (in), 4 ~{OUT} (out)
part C pins: 5 IN (in), 6 ~{OUT} (out)
part D pins: 8 ~{OUT} (out), 9 IN (in)
part E pins: 10 ~{OUT} (out), 11 IN (in)
part F pins: 12 ~{OUT} (out), 13 IN (in)

## MC7805ACT
designator U?
3-Terminal Positive Fixed Voltage Regulator
footprint 221A-04 (TO, Thru-Hole, Vertical, Heatsink Mounted; 3 In-Line Leads; Pitch 2.54 mm)
pins: 1 IN (power), 2 GND (power), 3 OUT (power)

## MC7905ACT
designator U?
Three-Terminal Negative Fixed Voltage Regulator
footprint 221A-04 (TO, Thru-Hole, Vertical, Heatsink Mounted; 3 In-Line Leads; Pitch 2.54 mm)
pins: 1 GND (power), 2 IN (power), 3 OUT (power)

## MCP130-300
designator U?
Microprocessor Supervisory Circuit in 3-Pin SOT-23; Revision: 17-Jul-2002: Re-released for DXP Platform.
footprint S0-G3
pins: 1 RST (out), 2 VDD (power), 3 GND (power)

## MD2-60ST
designator J?  (value not drawn)
CONN MINI-DIN 6PIN R/A SLIM PCB
footprint MD2-60ST (CONN MINI-DIN 6PIN R/A SLIM PCB)
pins: 1, 2, 3, 4, 5, 6

## MHDR2X25
designator J?
Header, 50-Pin, Dual row; Revision: 17-Jul-2002: Re-released for DXP Platform.
footprint MHDR2X25
signal-integrity model Connector
pins: 1, 2, 3, 4, 5, 6, 7, 8, 9, 10, 11, 12, 13, 14, 15, 16, 17, 18, 19, 20, 21, 22, 23, 24, 25, 26, 27, 28, 29, 30, 31, 32, 33, 34, 35, 36, 37, 38, 39, 40, 41, 42, 43, 44, 45, 46, 47, 48, 49, 50

## MIC2026-1
designator U?
MIC2026-1BM, Power Distribution Switch, SO-8; Manufacturer: Micrel Inc; Manufacturer#: MIC2026-1BM
footprint SO-G8 (SOIC 8 pin 0.5mm pitch)
pins: 1 ENA (in), 2 ~{FLAGA} (oc), 3 ~{FLAGB} (oc), 4 ENB (in), 5 OUTB (out), 6 GND (in), 7 IN (in), 8 OUTA (out)

## MIC29501
designator U?, comment 5V Regulator  (value not drawn)
Regulator 5V @ 5A
footprint TO-263-5 (D2-PAK, 6-Leads, Body 9.9x10.2mm, Pitch 1.7mm, Lead Span 14mm, IPC Low Density)
pins: 1 ENABLE (in), 2 IN (power), 3 GND (power), 4 OUT (power), 5 ~{FLAG} (out), 6 GND (power)

## Mini DIN6
designator J?, comment Mini-DIN6
6 Pin Mini-DIN plug Panel mount /w board lock; Value: Panel Mount
pins: 1, 2, 3, 4, 5 COM, 6 NC, 7 Shell, 8 Shell

## MINI-DIP
designator S?, comment mini-dip switch  (value not drawn)
footprint SOT-SINGLE_DIP (Mini-Dip switch)
pins: 1, 2, 3

## MJD340
designator Q?
NPN High voltage power transistor
footprint DPAK
pins: B, C, E

## MJD350
designator Q?
PNP High Voltage Power transistor
footprint DPAK
pins: B, C, E

## ML-VAR
designator MLV?, comment Multi-Var
Multiilayer Varistor
footprint RC0603
pins: 1, 2

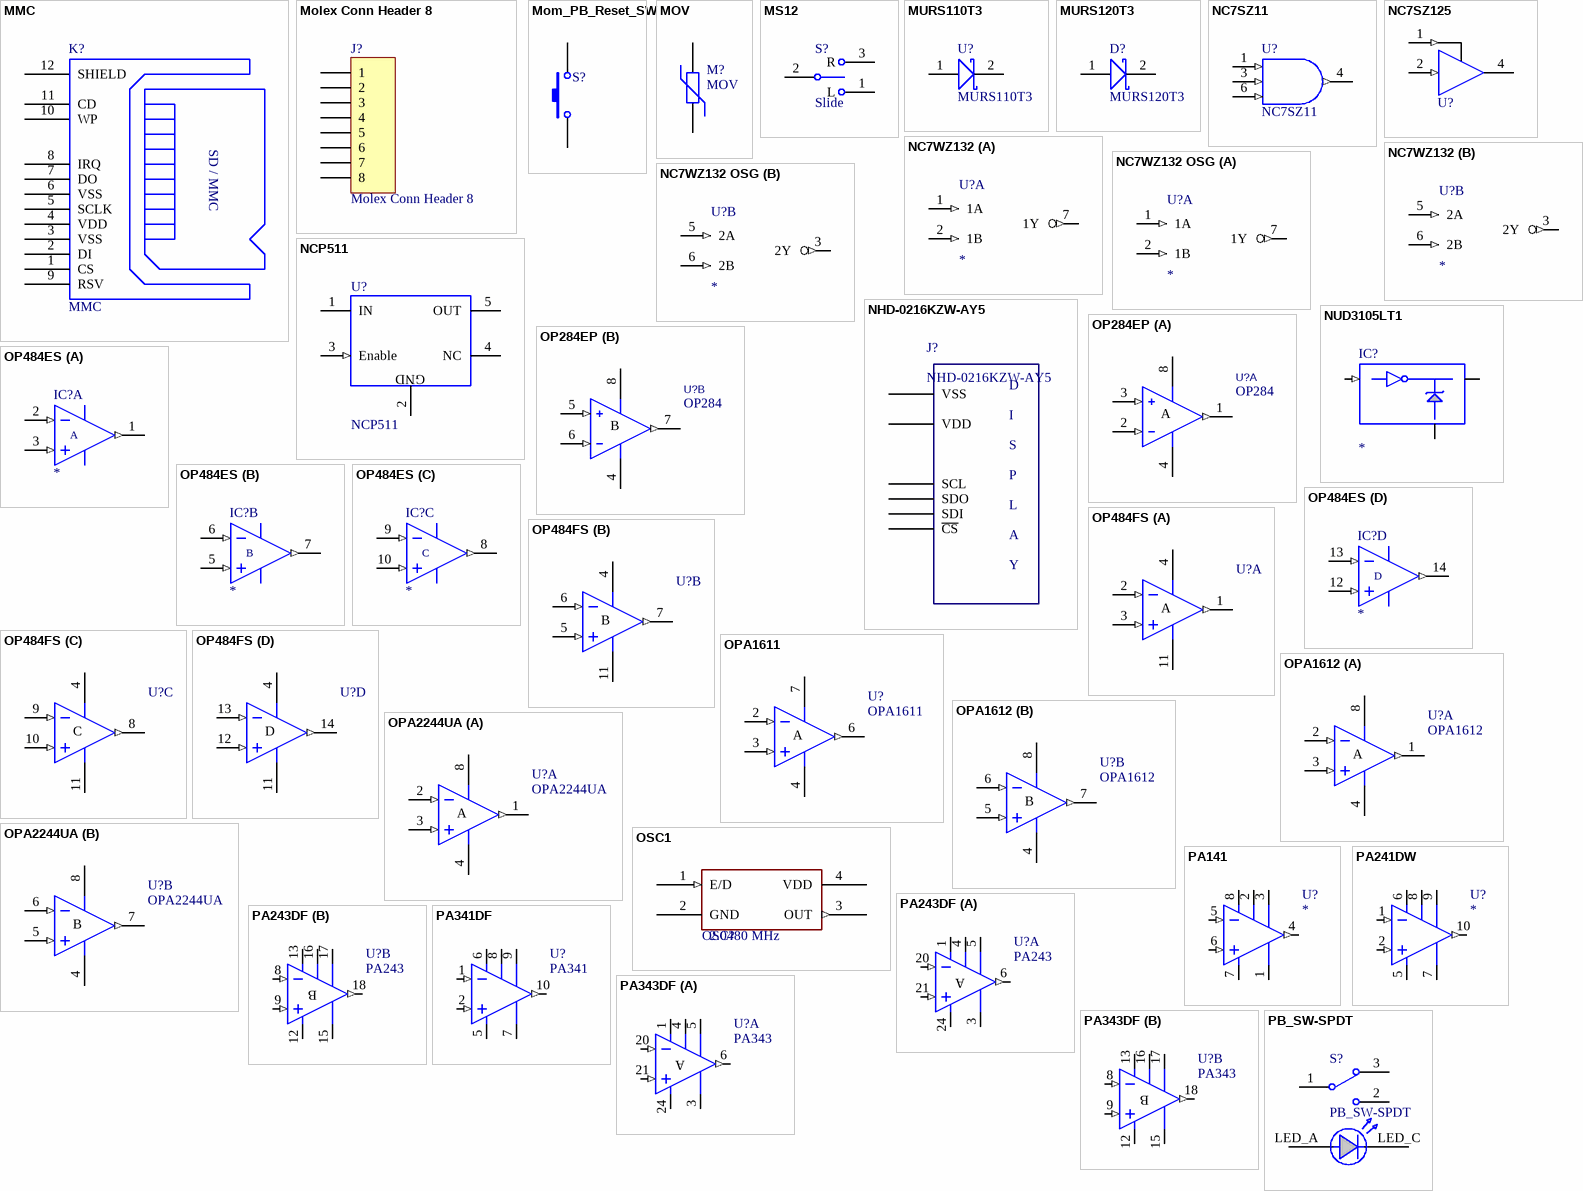
[diagram p11: symbols MMC to PB_SW-SPDT]

## MMC
designator K?
MMC CONNECTOR
footprint SD_MMC_9Pin (CCM05-5777LFT T50 -- CON SMART CARD SD/MMC 9PIN)
pins: 1 CS, 2 DI, 3 VSS, 4 VDD, 5 SCLK, 6 VSS, 7 DO, 8 IRQ, 9 RSV, 10 WP, 11 CD, 12 SHIELD
text: SD / MMC

## Molex Conn Header 8
designator J?
Molex Header Post, 8-Pin 0.100" pitch
footprint HDR1X8 (Connector; Header; 8 Position)
pins: 1, 2, 3, 4, 5, 6, 7, 8

## Mom_PB_Reset_SW
designator S?, comment BSU series  (value not drawn)
Switch
pins: 1, 2

## MOV
designator M?
MOV 140 VAC; Revision: July-2002: Re-released for DXP Platform.
footprint RAD-0.3
pins: 1, 2

## MS12
designator S?, comment Slide
MS12 vertical pcb mount slide switch
footprint MS12 (Single-pole PCB mount slide switch)
pins: 1 L, 2, 3 R, 4 hidden to GND, 5 hidden to GND, 6 hidden to GND, 7 hidden to GND

## MURS110T3
designator U?
MURS110T3 Power Rectifier  403A package
footprint 403A (403A Package)
pins: 1 A, 2 K

## MURS120T3
designator D?
MURS120T3 Power Rectifier  200v 403A package
footprint 403A (403A Package)
pins: 1 A, 2 K

## NC7SZ11
designator U?
NC7SZ11 TinyLogic UHS 3-Input AND Gate
footprint TSSOP-6 (6 lead TSSOP package)
pins: 1 A (in), 2 GND (power) hidden to AGND, 3 B (in), 4 Y (out), 5 VCC (power) hidden to +5V, 6 C (in)

## NC7SZ125
designator U?  (value not drawn)
Logic Buffer 3-State Output
footprint SO-G5/P.95
pins: 1 OE (in), 2 A (in), 3 GND (power) hidden, 4 Y (hiz), 5 Vcc (power) hidden

## NC7WZ132
designator U?
Dual 2-input NAND Gate with Schmitt Trig. Inputs
footprint US8 (8 Lead US8, JEDEC MO-187)
part A pins: 1 1A (in), 2 1B (in), 4 GND (power) hidden, 7 1Y (out), 8 Vcc (power) hidden
part B pins: 3 2Y (out), 5 2A (in), 6 2B (in)

## NC7WZ132 OSG
designator U?
Dual 2-input NAND Gate with Schmitt Trig. Inputs
footprint US8 (8 Lead US8, JEDEC MO-187)
part A pins: 1 1A (in), 2 1B (in), 4 GND (power) hidden to OSG_GND, 7 1Y (out), 8 Vcc (power) hidden to OSG_+5V
part B pins: 3 2Y (out), 5 2A (in), 6 2B (in)

## NCP511
designator U?
Micro Power LDO 3.3V 150mA SOT23-5
footprint SO-G5/P.95
pins: 1 IN (power), 2 GND (power), 3 Enable (in), 4 NC, 5 OUT (power), 8 IN (power) hidden

## NHD-0216KZW-AY5  
designator J?, comment NHD-0216KZW-AY5
2x16 Character OLED Display Yellow; Manufacturer: New Haven Display; Manufacturer#: NHD-0216KZW-AY5
pins: 1 VSS, 2 VDD, 3 NC hidden, 4 NC hidden, 5 NC hidden, 6 NC hidden, 7 NC hidden, 8 NC hidden, 9 NC hidden, 10 NC hidden, 11 NC hidden, 12 SCL, 13 SDO, 14 SDI, 15 NC hidden, 16 ~{CS}
text: D; I; S; P; L; A; Y

## NUD3105LT1
designator IC?
Integrated Relay Driver
footprint S0-G3
pins: 1 GATE (in), 2 SOURCE, 3 DRAIN

## OP284EP
designator U?, comment OP284
Dual Precisoin Op Amp
footprint SO-G8 (SOIC 8 pin 0.5mm pitch)
footprint SO-G8/E3.9 (SOIC 8 pin 0.5mm pitch wide body 6mm)
part A pins: 1 OUTA (out), 2 -INA (in), 3 +INA (in), 4 V- (power), 8 V+ (power)
part B pins: 4 V- (power), 5 +INB (in), 6 -INB (in), 7 OUTB (out), 8 V+ (power)
part A text: A
part B text: B

## OP484ES
designator IC?
OP484ES
footprint SO-G14
pins on every part: 4 V+ (power) hidden, 11 V- (power) hidden
part A pins: 1 OUT (out), 2 IN- (in), 3 IN+ (in)
part B pins: 5 IN+ (in), 6 IN- (in), 7 OUT (out)
part C pins: 8 OUT (out), 9 IN- (in), 10 IN+ (in)
part D pins: 12 IN+ (in), 13 IN- (in), 14 OUT (out)
part A text: A
part B text: B
part C text: C
part D text: D

## OP484FS
designator U?
Precision Rail-to-Rail Input and Output Operational Amplifier
footprint SO-G14
footprint SO-14_L (SOIC, 14-Leads, Body 8.7x3.9mm, Pitch 1.27mm, IPC High Density)
footprint SO-14_M (SOIC, 14-Leads, Body 8.7x3.9mm, Pitch 1.27mm, IPC Low Density)
3D model SO-14 (14-Pin Small Outline Integrated Circuit 1.27 mm Pitch)
simulation model OP484F (SUBCKT)
pins on every part: 4 V+ (power), 11 V- (power)
part A pins: 1 OUT (out), 2 IN- (in), 3 IN+ (in)
part B pins: 5 IN+ (in), 6 IN- (in), 7 OUT (out)
part C pins: 8 OUT (out), 9 IN- (in), 10 IN+ (in)
part D pins: 12 IN+ (in), 13 IN- (in), 14 OUT (out)
part A text: A
part B text: B
part C text: C
part D text: D

## OPA1611
designator U?
Bipolar input audio op-amp
footprint RM-8 (Footprint not found)
3D model RM-08 (PCB3D Model)
pins: 1 NC hidden, 2 IN- (in), 3 IN+ (in), 4 V- (power), 5 NC hidden, 6 OUT (out), 7 V+ (power), 8 NC hidden
text: A

## OPA1612
designator U?
Dual Package Bipolar input audio op-amp
footprint RM-8 (Footprint not found)
3D model RM-08 (PCB3D Model)
pins on every part: 4 V- (power), 8 V+ (power)
part A pins: 1 OUT (out), 2 IN- (in), 3 IN+ (in)
part B pins: 5 IN+ (in), 6 IN- (in), 7 OUT (out)
part A text: A
part B text: B

## OPA2244UA
designator U?
microPower Single Supply Dual Op-Amp
footprint SO-G8
pins on every part: 4 V- (power), 8 V+ (power)
part A pins: 1 OUT (out), 2 IN- (in), 3 IN+ (in)
part B pins: 5 IN+ (in), 6 IN- (in), 7 OUT (out)
part A text: A
part B text: B

## OSC1
designator OSC?, comment value 2.0480 MHz  (hidden comment: Crystal Oscillator)
OSC 2.0480 MHZ 3.3V HCMOS SMT; Manufacturer: FOX; Manufacturer#: FXO-HC736R-2.048
footprint FXO
pins: 1 E/D (in), 2 GND (power), 3 OUT (out), 4 VDD (power)

## PA141
designator U?
PA141
footprint MBFM-P8
pins: 1 ILIM, 2 COMP, 3 COMP, 4 OUT (out), 5 IN- (in), 6 IN+ (in), 7 V- (power), 8 V+ (power), 9 CASE (power) hidden, 10 CASE (power) hidden

## PA241DW
designator U?
PA241DW SIP
footprint MBFM-P8
footprint SIL-10/X1.2
pins: 1 -IN (in), 2 +IN (in), 3 NC hidden, 4 NC hidden, 5 -VS (power), 6 +VS (power), 7 ILIM, 8 COMP, 9 COMP, 10 OUT (out)

## PA243DF
designator U?, comment PA243
PA243DF Dual High Voltage Op Amp PSOP
footprint MBFM-P8
footprint PSOP24 (PA241 High Voltage opamp footprint)
part A pins: 1 +VSa (power), 3 NC hidden, 3 ILIMa, 4 NC hidden, 4 COMPa, 5 COMPa, 6 OUTa (out), 20 -INa (in), 21 +INa (in), 24 -VSa (power)
part B pins: 8 -INb (in), 9 +INb (in), 12 -VSb (power), 13 +VSb (power), 15 ILIMb, 16 COMPb, 17 COMPb, 18 OUT (out)
part A text: A
part B text: B

## PA341DF
designator U?, comment PA341
PA341DW High Voltage Op Amp PSOP
footprint PSOP24 (PA241 High Voltage opamp footprint)
pins: 1 -IN (in), 2 +IN (in), 3 NC hidden, 4 NC hidden, 5 -VS (power), 6 +VS (power), 7 ILIM, 8 COMP, 9 COMP, 10 OUT (out)

## PA343DF
designator U?, comment PA343
PA343DF Dual High Voltage Op Amp PSOP
footprint PSOP24 (PA241 High Voltage opamp footprint)
footprint PSOP24 - HeatSlug (PA241 High Voltage opamp footprint)
part A pins: 1 +VSa (power), 3 NC hidden, 3 ILIMa, 4 NC hidden, 4 COMPa, 5 COMPa, 6 OUTa (out), 20 -INa (in), 21 +INa (in), 24 -VSa (power), 25 HeatSlug (power) hidden to GND "GND"
part B pins: 8 -INb (in), 9 +INb (in), 12 -VSb (power), 13 +VSb (power), 15 ILIMb, 16 COMPb, 17 COMPb, 18 OUT (out)
part A text: A
part B text: B

## PB_SW-SPDT
designator S?
Push-On Push-OFF SPDT Switch
footprint UB16KKG015F-FF-RO (Push-ON Push-OFF switch Illuminated GRN)
pins: 1, 2, 3, LED_A, LED_C

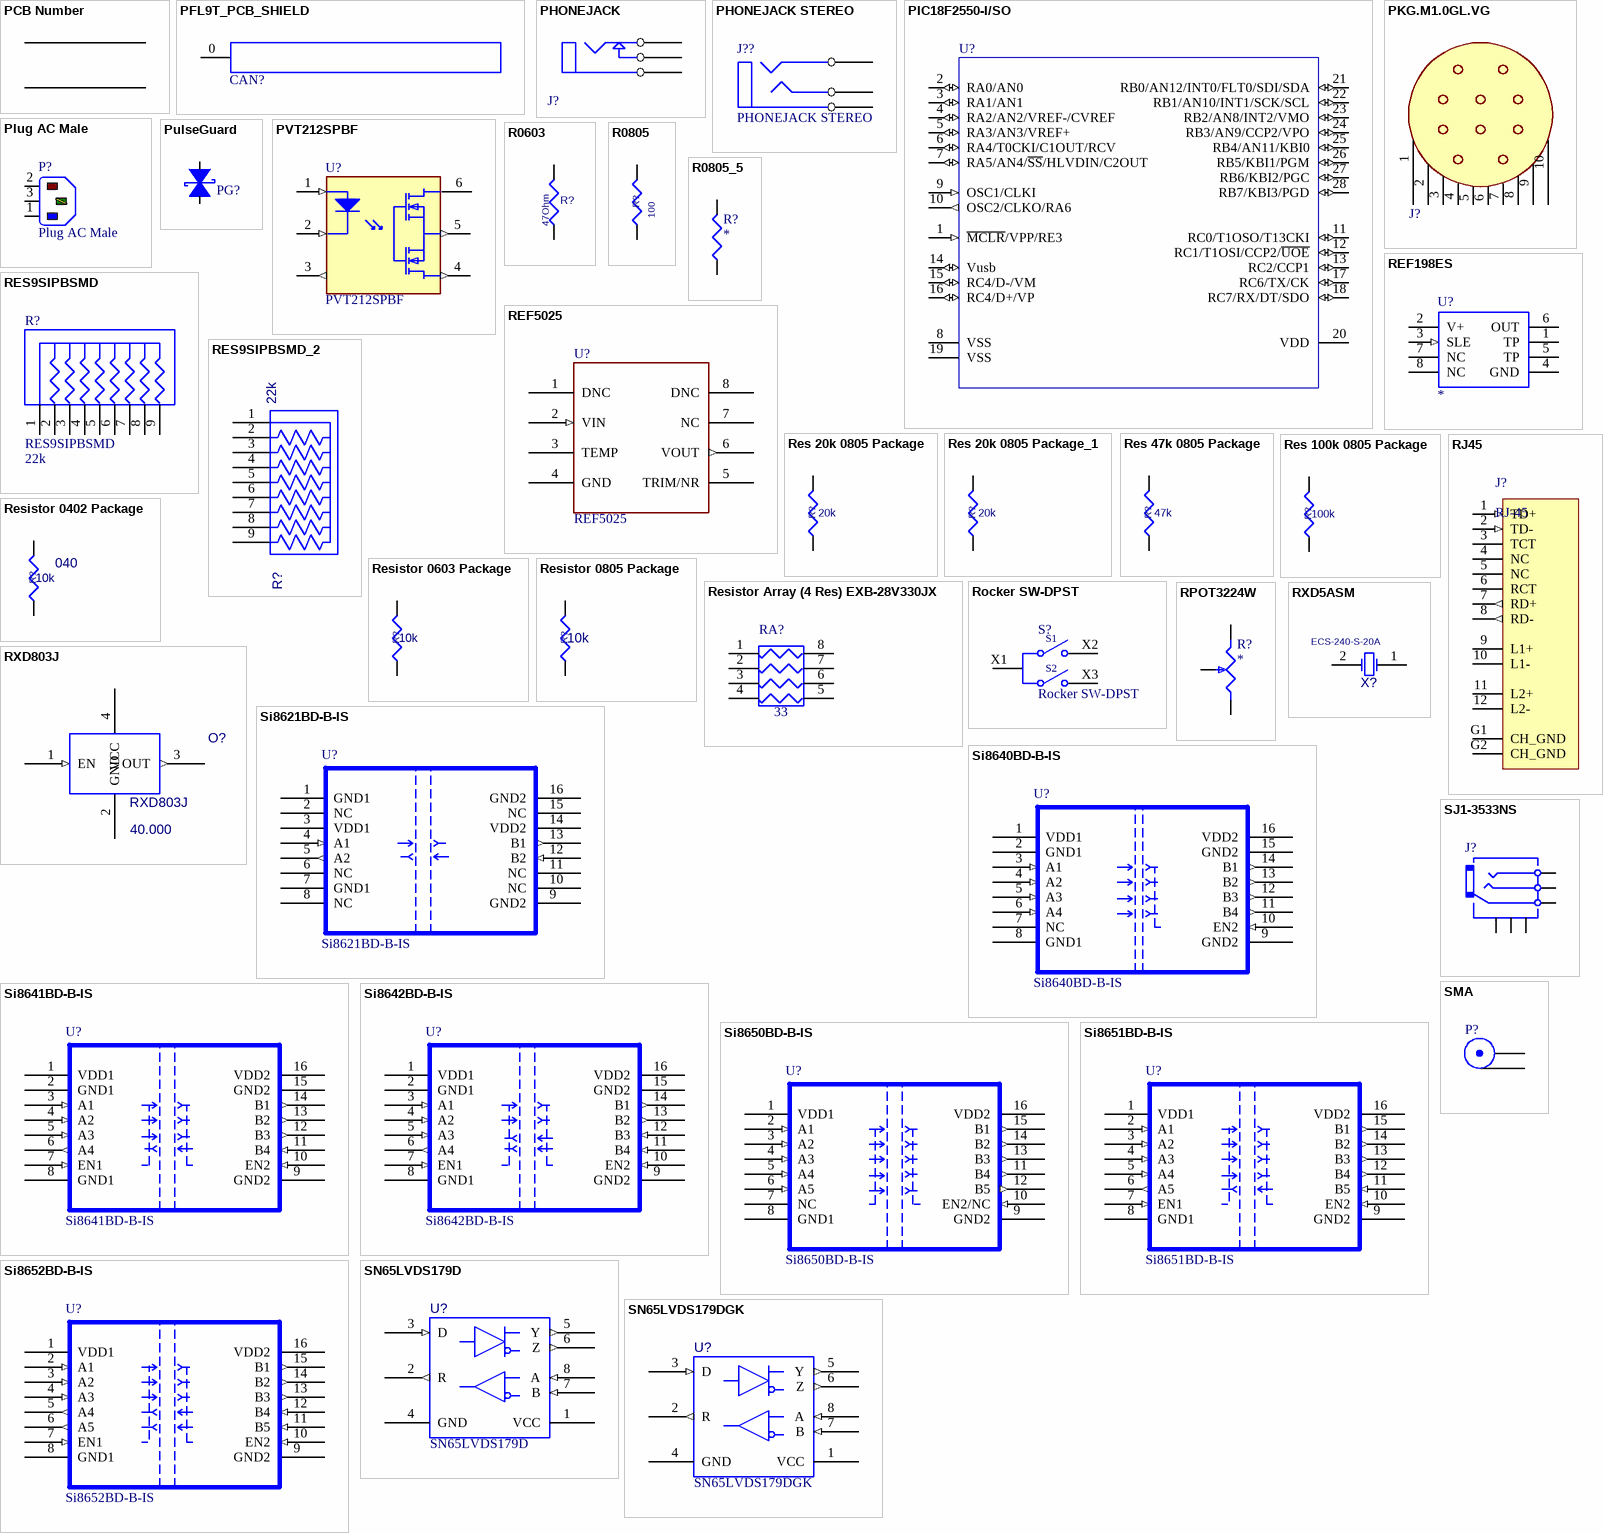
[diagram p12: symbols PCB Number to SN65LVDS179DGK]

## PCB Number
designator W#  (value not drawn)  (mechanical)
Symbol used to populate BOM with PCB number

## PFL9T_PCB_SHIELD
designator CAN?, comment LCD touchscreen  (value not drawn)
PFL9T Thru-hole 75mmX50mmX15mm PCB can
footprint PFL9T (Perancea PCB mount EMI shield)
pins: 0

## PHONEJACK
designator J?, comment Mono Switch Jack  (value not drawn)
footprint MonoSwxJack
pins: 1, 2, 3

## PHONEJACK STEREO
designator J??  (graphical)
General Purpose Stereo Jack
pins: A, B, C

## PIC18F2550-I/SO
designator U?
8-Bit Flash Microcontroller USB 2.0
footprint SO-G28 (Small Outline; 28 Leads; Body Width 7.5 mm; Pitch 1.27 mm)
pins: 1 ~{MCLR}/VPP/RE3 (in), 2 RA0/AN0 (io), 3 RA1/AN1 (io), 4 RA2/AN2/VREF-/CVREF (io), 5 RA3/AN3/VREF+ (io), 6 RA4/T0CKI/C1OUT/RCV (io), 7 RA5/AN4/~{SS}/HLVDIN/C2OUT (io), 8 VSS (power), 9 OSC1/CLKI (in), 10 OSC2/CLKO/RA6 (out), 11 RC0/T1OSO/T13CKI (io), 12 RC1/T1OSI/CCP2/~{UOE} (io), 13 RC2/CCP1 (io), 14 Vusb (io), 15 RC4/D-/VM (io), 16 RC4/D+/VP (io), 17 RC6/TX/CK (io), 18 RC7/RX/DT/SDO (io), 19 VSS (power), 20 VDD (power), 21 RB0/AN12/INT0/FLT0/SDI/SDA (io), 22 RB1/AN10/INT1/SCK/SCL (io), 23 RB2/AN8/INT2/VMO (io), 24 RB3/AN9/CCP2/VPO (io), 25 RB4/AN11/KBI0 (io), 26 RB5/KBI1/PGM (io), 27 RB6/KBI2/PGC (io), 28 RB7/KBI3/PGD (io)

## PKG.M1.0GL.VG
designator J?, comment Lemo  (value not drawn)
Lemo 10position Rt. Angle PCB mount
pins: 1, 2, 3, 4, 5, 6, 7, 8, 9, 10

## Plug AC Male
designator P?
IEC Mains Power Inlet, EN60 320-1 C14 Class I Cold Condition, PC Flange Rear Mount, Chassis Plug
footprint Power Entry Rt Angle PCB mount
pins: 1 (power) "Neutral", 2 (power) "Live (Active)", 3 (power) "Earth (Ground)"

## PulseGuard
designator PG?, comment Diode Bridge  (value not drawn)
ESD Suppressor; Description: Diode, Bridge, Switching, 50V, 140mA, SOT-143
footprint CC0603
pins: 1, 2

## PVT212SPBF
designator U?
Single pole NO solid state relay
pins: 1 ANODE 1 (in), 2 CATHODE 1 (in), 3 (out), 4 (out), 5 (out), 6 (power)

## R0603
designator R?  value 47Ohm  (hidden comment: R0603)
Description: Resistor
footprint RC0603
pins: 1 TOP, 2 BOT

## R0805
designator R?  value 100  (hidden comment: R0805)
footprint RC0805
pins: 1 TOP, 2 BOT

## R0805_5
designator R?
Chip Resistor Form Factor 0805; Value: *
footprint RC0805
pins: 1 TOP, 2 BOT

## REF198ES
designator U?
4.096V voltage reference
footprint SO-G8
pins: 1 TP, 2 V+ (power), 3 SLE (in), 4 GND (power), 5 TP, 6 OUT (power), 7 NC, 8 NC

## REF5025
designator U?
IC VREF SERIES PREC 8-MSOP 2.5V; Manufacturer: Texas Instruments; Voltage: 2.5V
footprint RM-8 (Shrink Small Outline, MSOP; 8 Leads; Body Width 3 mm; Pitch 0.65 mm)
pins: 1 DNC, 2 VIN (in), 3 TEMP, 4 GND (power), 5 TRIM/NR, 6 VOUT (out), 7 NC, 8 DNC

## RES9SIPBSMD
designator R?  value 22k
Resistor Array (8 Res)
footprint CTS753
pins: 1, 2, 3, 4, 5, 6, 7, 8, 9

## RES9SIPBSMD_2
designator R?, comment value 22k  (hidden comment: RES9SIPBSMD)
Description: Nine Bussed Resistors, SIP
footprint CTS753
pins: 1, 2, 3, 4, 5, 6, 7, 8, 9

## Res 20k 0805 Package
designator R?, comment value 20k  (hidden comment: Res 20k)
20k Resistor 0805 1/8W 1%
footprint RC0805
pins: 1 TOP, 2 BOT

## Res 20k 0805 Package_1
designator R?, comment value 20k  (hidden comment: Res 20k)
20k Resistor 0805 1/8W 1%
footprint RC0805
pins: 1 TOP, 2 BOT

## Res 47k 0805 Package
designator R?, comment value 47k  (hidden comment: Res 47k)
47k Resistor 0805 1/8W 5%
footprint RC0805
pins: 1 TOP, 2 BOT

## Res 100k 0805 Package
designator R?, comment value 100k  (hidden comment: Res 100k)
100k Resistor 0805 1/8W 1%
footprint RC0805
pins: 1 TOP, 2 BOT

## Resistor 0402 Package
designator R?, comment 0402  value 10k
Res 0402 Package
footprint 0402 (Chip Capacitor, Body 1.0x0.5mm, IPC High Density)
pins: 1 TOP, 2 BOT

## Resistor 0603 Package
designator R?, comment value 10k  (hidden comment: Resistor 0603)
Res 0603 Package any value
footprint RC0603
pins: 1 TOP, 2 BOT

## Resistor 0805 Package
designator R?, comment value 10k  (hidden comment: Resistor 0805)
Res 0805 Package any value
footprint RC0805
pins: 1 TOP, 2 BOT

## Resistor Array (4 Res) EXB-28V330JX
designator RA?, comment value 33  (hidden comment: Resistor Array)
Resistor Array (4 Res)
footprint RNS005 (Resistor Array Package)
simulation model respack_4 (4 resistor pack)
signal-integrity model ResistorArray4 (Resistor Array 4)
pins: 1, 2, 3, 4, 5, 6, 7, 8

## RJ45
designator J?, comment RJ-45
RJ45 with integrated transformers and LEDs
footprint RJ45 (TRJ0011GBNL -- CONN RJ45  WITH MAGNETIC AND LEDS)
pins: 1 TD+ (in) "GND", 2 TD- (in) "GND", 3 TCT "GND", 4 NC "GND", 5 NC "GND", 6 RCT "GND", 7 RD+ (out) "GND", 8 RD- (out) "GND", 9 L1+ "GND", 10 L1- "GND", 11 L2+ "GND", 12 L2- "GND", G1 CH_GND "GND", G2 CH_GND "GND"

## Rocker SW-DPST
designator S?
Rocker Double-Pole, Single-Throw Switch
pins: X1 COMMON, X2 NO1, X3 NO2
text: S1; S2

## RPOT3224W
designator R?
5k 12 Turn Side Adj SMT pot
footprint TRM3224W
3D model TRM3224W (PCB3D Model)
pins: 1 CCW, 2 WIPER, 3 CW

## RXD5ASM
designator X?  value ECS-240-S-20A  (hidden comment: RXD5ASM)
Description: Crystal Oscillator; Manufacturer: www.rxdtech.com
footprint RXD5ASM
pins: 1 OSC1, 2 OSC2

## RXD803J
designator O?  value 40.000
Manufacturer: RXD
footprint RXD803
pins: 1 EN (in), 2 GND (power), 3 OUT (out), 4 VCC (power)

## Si8621BD-B-IS
designator U?
Manufacturer: Silicon Labs
footprint SO-G16/G6.9
pins: 1 GND1 (power), 2 NC, 3 VDD1 (power), 4 A1 (in), 5 A2 (out), 6 NC, 7 GND1 (power), 8 NC, 9 GND2 (power), 10 NC, 11 NC, 12 B2 (in), 13 B1 (out), 14 VDD2 (power), 15 NC, 16 GND2 (power)

## Si8640BD-B-IS
designator U?
LOW-POWER QUAD-CHANNEL DIGITAL ISOLATOR; Manufacturer: Silicon Labs; Value: Si8640
footprint SO-G16/G6.9
pins: 1 VDD1 (power), 2 GND1 (power), 3 A1 (in), 4 A2 (in), 5 A3 (in), 6 A4 (in), 7 NC, 8 GND1 (power), 9 GND2 (power), 10 EN2 (in), 11 B4 (out), 12 B3 (out), 13 B2 (out), 14 B1 (out), 15 GND2, 16 VDD2 (power)

## Si8641BD-B-IS
designator U?
Manufacturer: Silicon Labs; Value: Si8641BD-B-IS
footprint SO-G16/G6.9
pins: 1 VDD1 (power), 2 GND1 (power), 3 A1 (in), 4 A2 (in), 5 A3 (in), 6 A4 (out), 7 EN1 (in), 8 GND1, 9 GND2 (power), 10 EN2 (in), 11 B4 (in), 12 B3 (out), 13 B2 (out), 14 B1 (out), 15 GND2 (power), 16 VDD2 (power)

## Si8642BD-B-IS
designator U?
Manufacturer: Silicon Labs; Value: Si8641BD-B-IS
footprint SO-G16/G6.9
pins: 1 VDD1 (power), 2 GND1 (power), 3 A1 (in), 4 A2 (in), 5 A3 (in), 6 A4 (out), 7 EN1 (in), 8 GND1, 9 GND2 (power), 10 EN2 (in), 11 B4 (in), 12 B3 (in), 13 B2 (out), 14 B1 (out), 15 GND2 (power), 16 VDD2 (power)

## Si8650BD-B-IS
designator U?
Manufacturer: Silicon Labs; Value: Value
footprint SO-G16/G6.9
pins: 1 VDD1 (power), 2 A1 (in), 3 A2 (in), 4 A3 (in), 5 A4 (in), 6 A5 (in), 7 NC, 8 GND1 (power), 9 GND2 (power), 10 EN2/NC (in), 11 B4 (out), 12 B5 (out), 13 B3 (out), 14 B2 (out), 15 B1 (out), 16 VDD2 (power)

## Si8651BD-B-IS
designator U?
Manufacturer: Silicon Labs; Value: Si8641BD-B-IS
footprint SO-G16/G6.9
pins: 1 VDD1 (power), 2 A1 (in), 3 A2 (in), 4 A3 (in), 5 A4 (in), 6 A5 (out), 7 EN1 (in), 8 GND1, 9 GND2 (power), 10 EN2 (in), 11 B5 (in), 12 B4 (out), 13 B3 (out), 14 B2 (out), 15 B1 (out), 16 VDD2 (power)

## Si8652BD-B-IS
designator U?
Manufacturer: Silicon Labs; Value: Si8641BD-B-IS
footprint SO-G16/G6.9
pins: 1 VDD1 (power), 2 A1 (in), 3 A2 (in), 4 A3 (in), 5 A4 (out), 6 A5 (out), 7 EN1 (in), 8 GND1, 9 GND2 (power), 10 EN2 (in), 11 B5 (in), 12 B4 (in), 13 B3 (out), 14 B2 (out), 15 B1 (out), 16 VDD2 (power)

## SJ1-3533NS
designator J?
3-Conductor Phonejack Jack; Manufacturer: CUI; Revision: 17-Jul-2002: Re-released for DXP Platform.
signal-integrity model Connector
footprint RTangleStereoJack (3.5mm Stereo Jack Right Angle)
pins: 1, 2, 3, 4, 5, 6

## SMA
designator P?
SMA Straight Connector; Revision: 17-Jul-2002: Re-released for DXP Platform.
footprint SMA PCB JACK (SMA Straight PCB Jack)
signal-integrity model Connector
pins: 1 X, 2 Y

## SN65LVDS179D
designator U?
h-Speed Differential Line Driver And Receiver; Manufacturer: Texas Instruments
footprint SO-G8 (SOIC 8 pin 0.5mm pitch)
pins: 1 VCC (power), 2 R (out), 3 D (in), 4 GND (power), 5 Y (out), 6 Z (out), 7 B (in), 8 A (in)

## SN65LVDS179DGK
designator U?
h-Speed Differential Line Driver And Receiver; Manufacturer: Texas Instruments
footprint SSO-G8/P.65
pins: 1 VCC (power), 2 R (out), 3 D (in), 4 GND (power), 5 Y (out), 6 Z (out), 7 B (in), 8 A (in)

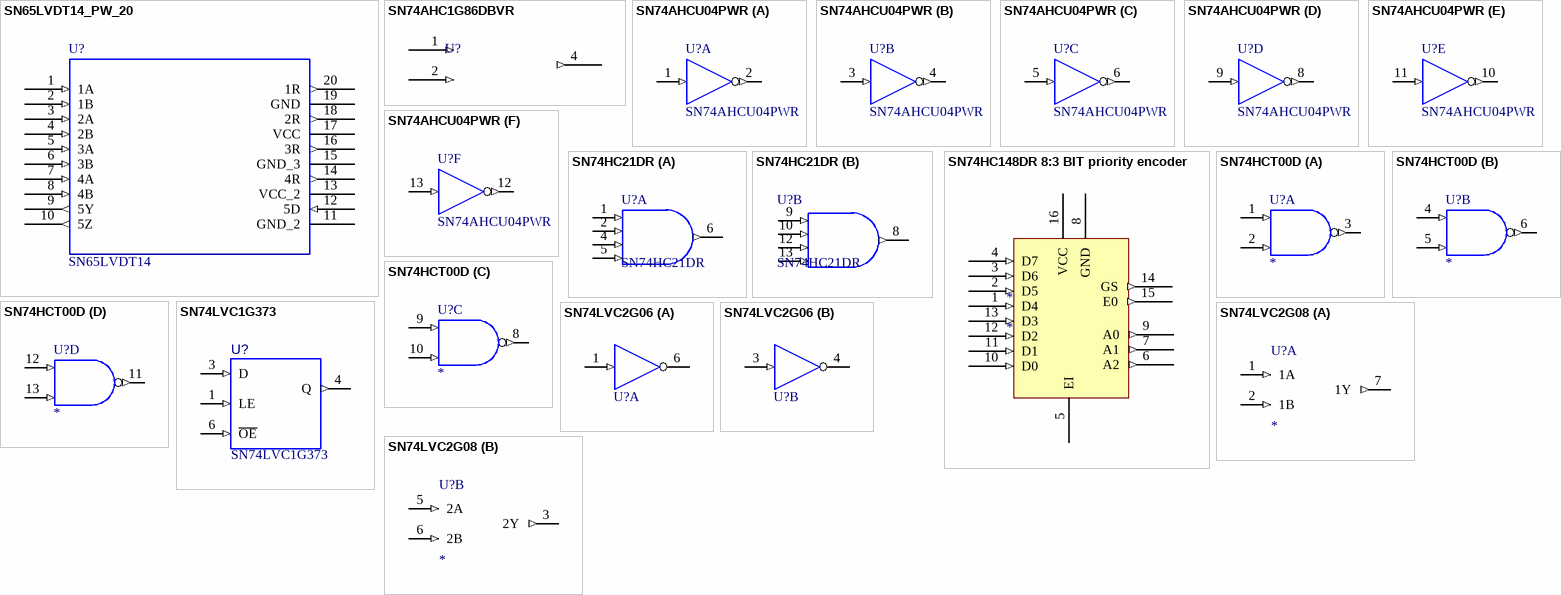
[diagram p13: symbols SN65LVDT14_PW_20 to SN74LVC2G08]

## SN65LVDT14_PW_20
designator U?, comment SN65LVDT14
LVDS MemoryStick(TM) Interconnect Extender Chipset; Manufacturer: Texas Instruments
footprint TSSO6x6-G20/P.65
pins: 1 1A (in), 2 1B (in), 3 2A (in), 4 2B (in), 5 3A (in), 6 3B (in), 7 4A (in), 8 4B (in), 9 5Y (out), 10 5Z (out), 11 GND_2 (power), 12 5D (in), 13 VCC_2 (power), 14 4R (out), 15 GND_3 (power), 16 3R (out), 17 VCC (power), 18 2R (out), 19 GND (power), 20 1R (out)

## SN74AHC1G86DBVR
designator U?, comment SN74AHC1G86  (value not drawn)
SN74AHC1G86 Single 2-Input XOR Gate; Manufacturer: Texas Instruments; Manufacturer#: SN74AHC1G86DBVR
footprint SOT23-5AN (SOT23, 5-Leads, Body 2.9x1.6mm, Pitch 0.95mm, Lead Span 2.8mm, IPC Medium Density)
pins: 1 A (in), 2 B (in), 3 GND (power) hidden to GND, 4 Y (out), 5 VCC (power) hidden to 3.3V